# Altium integrated library Xilinx Virtex-II Pro.IntLib: 140 symbols (part 20 of 77)
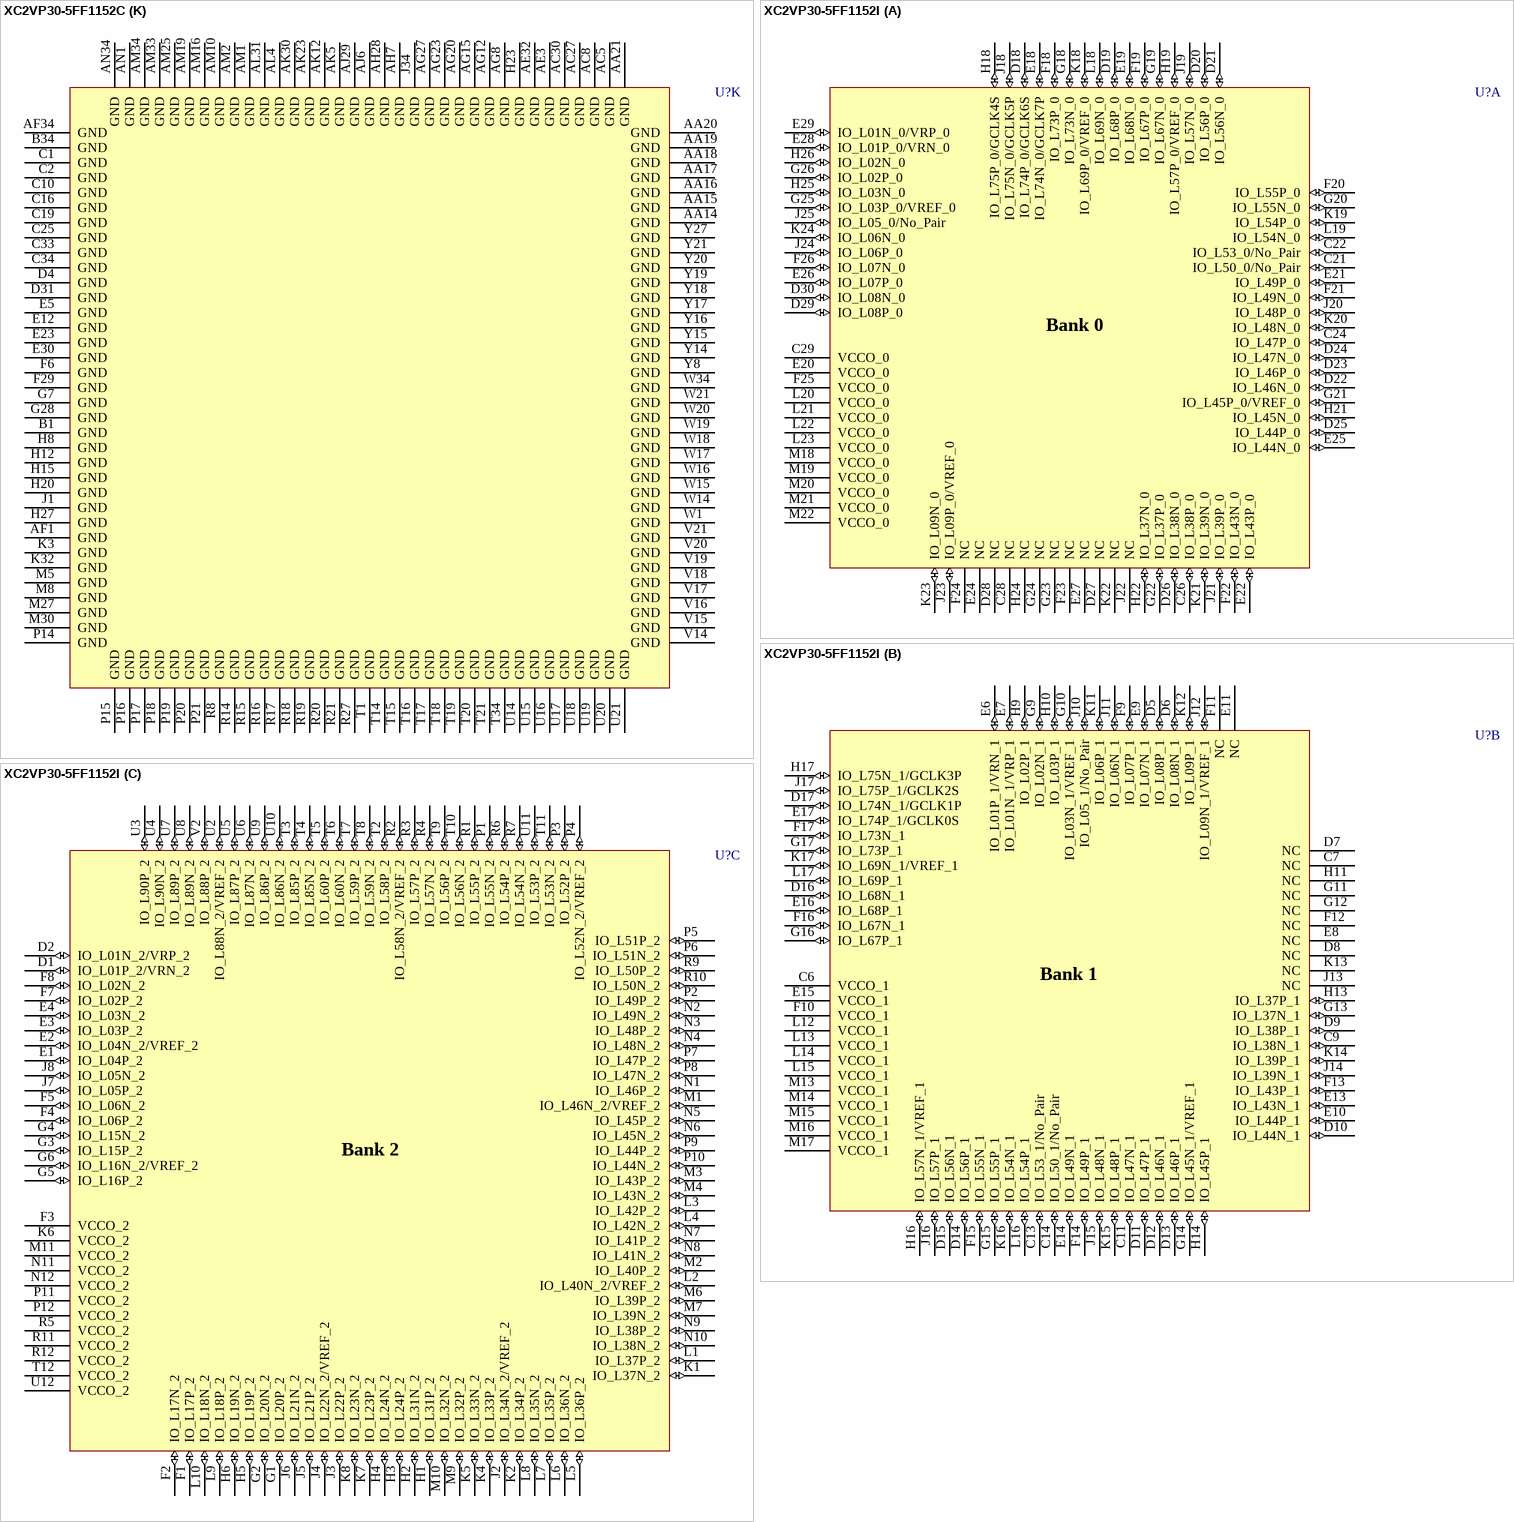
[diagram p418: symbols XC2VP30-5FF1152C to XC2VP30-5FF1152I]

## XC2VP30-5FF1152C
designator U?
Virtex-II Pro Platform FPGA, 1152-Ball FFBGA, Speed Grade 5, 644 User I/Os, Commercial Grade; PackageDocument: ver1.0, Apr-2001; User_I/Os: 644; Published: 16-Apr-2003; DatasheetDocument: 22-Apr-2004; PackageReference: FF1152; Publisher: Altium Limited; Code_JEDEC: MS-034-AAR-1
footprint FF1152 (1152-Ball Flip-Chip Fine Pitch Ball Grid Array (FF1152))
3D model XC2VP30-FF1152 (1152-Ball Flip-Chip Fine Pitch Ball Grid Array (FF1152))
signal-integrity model XC2VP30_FF1152 (Virtex-II Pro)
part A pins: C21 IO_L50_0/No_Pair (io), C22 IO_L53_0/No_Pair (io), C24 IO_L47P_0 (io), C26 IO_L38P_0 (io), C28 NC, C29 VCCO_0 (power), D18 IO_L74P_0/GCLK6S (io), D19 IO_L68P_0 (io), D20 IO_L56P_0 (io), D21 IO_L56N_0 (io), D22 IO_L46N_0 (io), D23 IO_L46P_0 (io), D24 IO_L47N_0 (io), D25 IO_L44P_0 (io), D26 IO_L38N_0 (io), D27 NC, D28 NC, D29 IO_L08P_0 (io), D30 IO_L08N_0 (io), E18 IO_L74N_0/GCLK7P (io), E19 IO_L68N_0 (io), E20 VCCO_0 (power), E21 IO_L49P_0 (io), E22 IO_L43P_0 (io), E24 NC, E25 IO_L44N_0 (io), E26 IO_L07P_0 (io), E27 NC, E28 IO_L01P_0/VRN_0 (io), E29 IO_L01N_0/VRP_0 (io), F18 IO_L73P_0 (io), F19 IO_L67P_0 (io), F20 IO_L55P_0 (io), F21 IO_L49N_0 (io), F22 IO_L43N_0 (io), F23 NC, F24 NC, F25 VCCO_0 (power), F26 IO_L07N_0 (io), G18 IO_L73N_0 (io), G19 IO_L67N_0 (io), G20 IO_L55N_0 (io), G21 IO_L45P_0/VREF_0 (io), G22 IO_L37P_0 (io), G23 NC, G24 NC, G25 IO_L03P_0/VREF_0 (io), G26 IO_L02P_0 (io), H18 IO_L75P_0/GCLK4S (io), H19 IO_L57P_0/VREF_0 (io), H21 IO_L45N_0 (io), H22 IO_L37N_0 (io), H24 NC, H25 IO_L03N_0 (io), H26 IO_L02N_0 (io), J18 IO_L75N_0/GCLK5P (io), J19 IO_L57N_0 (io), J20 IO_L48P_0 (io), J21 IO_L39P_0 (io), J22 NC, J23 IO_L09P_0/VREF_0 (io), J24 IO_L06P_0 (io), J25 IO_L05_0/No_Pair (io), K18 IO_L69P_0/VREF_0 (io), K19 IO_L54P_0 (io), K20 IO_L48N_0 (io), K21 IO_L39N_0 (io), K22 NC, K23 IO_L09N_0 (io), K24 IO_L06N_0 (io), L18 IO_L69N_0 (io), L19 IO_L54N_0 (io), L20 VCCO_0 (power), L21 VCCO_0 (power), L22 VCCO_0 (power), L23 VCCO_0 (power), M18 VCCO_0 (power), M19 VCCO_0 (power), M20 VCCO_0 (power), M21 VCCO_0 (power), M22 VCCO_0 (power)
part B pins: C6 VCCO_1 (power), C7 NC, C9 IO_L38N_1 (io), C11 IO_L47N_1 (io), C13 IO_L53_1/No_Pair (io), C14 IO_L50_1/No_Pair (io), D5 IO_L08P_1 (io), D6 IO_L08N_1 (io), D7 NC, D8 NC, D9 IO_L38P_1 (io), D10 IO_L44N_1 (io), D11 IO_L47P_1 (io), D12 IO_L46N_1 (io), D13 IO_L46P_1 (io), D14 IO_L56P_1 (io), D15 IO_L56N_1 (io), D16 IO_L68N_1 (io), D17 IO_L74N_1/GCLK1P (io), E6 IO_L01P_1/VRN_1 (io), E7 IO_L01N_1/VRP_1 (io), E8 NC, E9 IO_L07N_1 (io), E10 IO_L44P_1 (io), E11 NC, E13 IO_L43N_1 (io), E14 IO_L49N_1 (io), E15 VCCO_1 (power), E16 IO_L68P_1 (io), E17 IO_L74P_1/GCLK0S (io), F9 IO_L07P_1 (io), F10 VCCO_1 (power), F11 NC, F12 NC, F13 IO_L43P_1 (io), F14 IO_L49P_1 (io), F15 IO_L55N_1 (io), F16 IO_L67N_1 (io), F17 IO_L73N_1 (io), G9 IO_L02N_1 (io), G10 IO_L03N_1/VREF_1 (io), G11 NC, G12 NC, G13 IO_L37N_1 (io), G14 IO_L45N_1/VREF_1 (io), G15 IO_L55P_1 (io), G16 IO_L67P_1 (io), G17 IO_L73P_1 (io), H9 IO_L02P_1 (io), H10 IO_L03P_1 (io), H11 NC, H13 IO_L37P_1 (io), H14 IO_L45P_1 (io), H16 IO_L57N_1/VREF_1 (io), H17 IO_L75N_1/GCLK3P (io), J10 IO_L05_1/No_Pair (io), J11 IO_L06N_1 (io), J12 IO_L09N_1/VREF_1 (io), J13 NC, J14 IO_L39N_1 (io), J15 IO_L48N_1 (io), J16 IO_L57P_1 (io), J17 IO_L75P_1/GCLK2S (io), K11 IO_L06P_1 (io), K12 IO_L09P_1 (io), K13 NC, K14 IO_L39P_1 (io), K15 IO_L48P_1 (io), K16 IO_L54N_1 (io), K17 IO_L69N_1/VREF_1 (io), L12 VCCO_1 (power), L13 VCCO_1 (power), L14 VCCO_1 (power), L15 VCCO_1 (power), L16 IO_L54P_1 (io), L17 IO_L69P_1 (io), M13 VCCO_1 (power), M14 VCCO_1 (power), M15 VCCO_1 (power), M16 VCCO_1 (power), M17 VCCO_1 (power)
part C pins: D1 IO_L01P_2/VRN_2 (io), D2 IO_L01N_2/VRP_2 (io), E1 IO_L04P_2 (io), E2 IO_L04N_2/VREF_2 (io), E3 IO_L03P_2 (io), E4 IO_L03N_2 (io), F1 IO_L17P_2 (io), F2 IO_L17N_2 (io), F3 VCCO_2 (power), F4 IO_L06P_2 (io), F5 IO_L06N_2 (io), F7 IO_L02P_2 (io), F8 IO_L02N_2 (io), G1 IO_L20P_2 (io), G2 IO_L20N_2 (io), G3 IO_L15P_2 (io), G4 IO_L15N_2 (io), G5 IO_L16P_2 (io), G6 IO_L16N_2/VREF_2 (io), H1 IO_L31P_2 (io), H2 IO_L31N_2 (io), H3 IO_L24P_2 (io), H4 IO_L24N_2 (io), H5 IO_L19P_2 (io), H6 IO_L19N_2 (io), J2 IO_L34N_2/VREF_2 (io), J3 IO_L22P_2 (io), J4 IO_L22N_2/VREF_2 (io), J5 IO_L21P_2 (io), J6 IO_L21N_2 (io), J7 IO_L05P_2 (io), J8 IO_L05N_2 (io), K1 IO_L37N_2 (io), K2 IO_L34P_2 (io), K4 IO_L33P_2 (io), K5 IO_L33N_2 (io), K6 VCCO_2 (power), K7 IO_L23P_2 (io), K8 IO_L23N_2 (io), L1 IO_L37P_2 (io), L2 IO_L40N_2/VREF_2 (io), L3 IO_L42P_2 (io), L4 IO_L42N_2 (io), L5 IO_L36P_2 (io), L6 IO_L36N_2 (io), L7 IO_L35P_2 (io), L8 IO_L35N_2 (io), L9 IO_L18P_2 (io), L10 IO_L18N_2 (io), M1 IO_L46N_2/VREF_2 (io), M2 IO_L40P_2 (io), M3 IO_L43P_2 (io), M4 IO_L43N_2 (io), M6 IO_L39P_2 (io), M7 IO_L39N_2 (io), M9 IO_L32P_2 (io), M10 IO_L32N_2 (io), M11 VCCO_2 (power), N1 IO_L46P_2 (io), N2 IO_L49N_2 (io), N3 IO_L48P_2 (io), N4 IO_L48N_2 (io), N5 IO_L45P_2 (io), N6 IO_L45N_2 (io), N7 IO_L41P_2 (io), N8 IO_L41N_2 (io), N9 IO_L38P_2 (io), N10 IO_L38N_2 (io), N11 VCCO_2 (power), N12 VCCO_2 (power), P1 IO_L55N_2 (io), P2 IO_L49P_2 (io), P3 IO_L52P_2 (io), P4 IO_L52N_2/VREF_2 (io), P5 IO_L51P_2 (io), P6 IO_L51N_2 (io), P7 IO_L47P_2 (io), P8 IO_L47N_2 (io), P9 IO_L44P_2 (io), P10 IO_L44N_2 (io), P11 VCCO_2 (power), P12 VCCO_2 (power), R1 IO_L55P_2 (io), R2 IO_L58N_2/VREF_2 (io), R3 IO_L57P_2 (io), R4 IO_L57N_2 (io), R5 VCCO_2 (power), R6 IO_L54P_2 (io), R7 IO_L54N_2 (io), R9 IO_L50P_2 (io), R10 IO_L50N_2 (io), R11 VCCO_2 (power), R12 VCCO_2 (power), T2 IO_L58P_2 (io), T3 IO_L85P_2 (io), T4 IO_L85N_2 (io), T5 IO_L60P_2 (io), T6 IO_L60N_2 (io), T7 IO_L59P_2 (io), T8 IO_L59N_2 (io), T9 IO_L56P_2 (io), T10 IO_L56N_2 (io), T11 IO_L53N_2 (io), T12 VCCO_2 (power), U2 IO_L88N_2/VREF_2 (io), U3 IO_L90P_2 (io), U4 IO_L90N_2 (io), U5 IO_L87P_2 (io), U6 IO_L87N_2 (io), U7 IO_L89P_2 (io), U8 IO_L89N_2 (io), U9 IO_L86P_2 (io), U10 IO_L86N_2 (io), U11 IO_L53P_2 (io), U12 VCCO_2 (power), V2 IO_L88P_2 (io)
part D pins: AA1 IO_L60P_3 (io), AA2 IO_L54N_3 (io), AA3 IO_L52N_3 (io), AA4 IO_L52P_3 (io), AA5 IO_L49N_3 (io), AA6 IO_L49P_3 (io), AA7 IO_L47N_3 (io), AA8 IO_L47P_3 (io), AA9 IO_L44N_3 (io), AA10 IO_L44P_3 (io), AA11 VCCO_3 (power), AA12 VCCO_3 (power), AB1 IO_L51N_3/VREF_3 (io), AB2 IO_L54P_3 (io), AB3 IO_L48N_3 (io), AB4 IO_L48P_3 (io), AB5 IO_L46N_3 (io), AB6 IO_L46P_3 (io), AB7 IO_L41N_3 (io), AB8 IO_L41P_3 (io), AB9 IO_L38N_3 (io), AB10 IO_L38P_3 (io), AB11 VCCO_3 (power), AB12 VCCO_3 (power), AC1 IO_L51P_3 (io), AC2 IO_L45N_3/VREF_3 (io), AC3 IO_L43N_3 (io), AC4 IO_L43P_3 (io), AC6 IO_L40N_3 (io), AC7 IO_L40P_3 (io), AC9 IO_L32N_3 (io), AC10 IO_L32P_3 (io), AC11 VCCO_3 (power), AD1 IO_L42N_3 (io), AD2 IO_L45P_3 (io), AD3 IO_L39N_3/VREF_3 (io), AD4 IO_L39P_3 (io), AD5 IO_L37N_3 (io), AD6 IO_L37P_3 (io), AD7 IO_L35N_3 (io), AD8 IO_L35P_3 (io), AD9 IO_L20N_3 (io), AD10 IO_L20P_3 (io), AE1 IO_L42P_3 (io), AE2 IO_L36N_3 (io), AE4 IO_L34N_3 (io), AE5 IO_L34P_3 (io), AE6 VCCO_3 (power), AE7 IO_L23N_3 (io), AE8 IO_L23P_3 (io), AF2 IO_L36P_3 (io), AF3 IO_L31N_3 (io), AF4 IO_L31P_3 (io), AF5 IO_L22N_3 (io), AF6 IO_L22P_3 (io), AF7 IO_L17N_3 (io), AF8 IO_L17P_3 (io), AG1 IO_L33N_3/VREF_3 (io), AG2 IO_L33P_3 (io), AG3 IO_L21N_3/VREF_3 (io), AG4 IO_L21P_3 (io), AG5 IO_L15N_3/VREF_3 (io), AG6 IO_L15P_3 (io), AG7 IO_L05N_3 (io), AH1 IO_L24N_3 (io), AH2 IO_L24P_3 (io), AH3 IO_L19N_3 (io), AH4 IO_L19P_3 (io), AH5 IO_L04N_3 (io), AH6 IO_L04P_3 (io), AH8 IO_L05P_3 (io), AJ1 IO_L18N_3 (io), AJ2 IO_L18P_3 (io), AJ3 VCCO_3 (power), AJ4 IO_L01N_3/VRP_3 (io), AJ5 IO_L01P_3/VRN_3 (io), AJ7 IO_L02N_3 (io), AJ8 IO_L02P_3 (io), AK1 IO_L16N_3 (io), AK2 IO_L16P_3 (io), AK3 IO_L03N_3/VREF_3 (io), AK4 IO_L03P_3 (io), AL1 IO_L06N_3 (io), AL2 IO_L06P_3 (io), V3 IO_L90N_3 (io), V4 IO_L90P_3 (io), V5 IO_L88N_3 (io), V6 IO_L88P_3 (io), V7 IO_L89N_3 (io), V8 IO_L89P_3 (io), V9 IO_L86N_3 (io), V10 IO_L86P_3 (io), V11 IO_L59N_3 (io), V12 VCCO_3 (power), W2 IO_L87N_3/VREF_3 (io), W3 IO_L85N_3 (io), W4 IO_L85P_3 (io), W5 IO_L58N_3 (io), W6 IO_L58P_3 (io), W7 IO_L56N_3 (io), W8 IO_L56P_3 (io), W9 IO_L53N_3 (io), W10 IO_L53P_3 (io), W11 IO_L59P_3 (io), W12 VCCO_3 (power), Y1 IO_L60N_3 (io), Y2 IO_L87P_3 (io), Y3 IO_L57N_3/VREF_3 (io), Y4 IO_L57P_3 (io), Y5 VCCO_3 (power), Y6 IO_L55N_3 (io), Y7 IO_L55P_3 (io), Y9 IO_L50N_3 (io), Y10 IO_L50P_3 (io), Y11 VCCO_3 (power), Y12 VCCO_3 (power)
part E pins: AC13 VCCO_4 (power), AC14 VCCO_4 (power), AC15 VCCO_4 (power), AC16 VCCO_4 (power), AC17 VCCO_4 (power), AD12 VCCO_4 (power), AD13 VCCO_4 (power), AD14 VCCO_4 (power), AD15 VCCO_4 (power), AD16 IO_L49N_4 (io), AD17 IO_L67N_4 (io), AE11 IO_L07N_4 (io), AE12 NC, AE13 IO_L37N_4 (io), AE14 IO_L43N_4 (io), AE15 IO_L46N_4 (io), AE16 IO_L49P_4 (io), AE17 IO_L67P_4 (io), AF10 IO_L05_4/No_Pair (io), AF11 IO_L07P_4/VREF_4 (io), AF12 NC, AF13 IO_L37P_4 (io), AF14 IO_L43P_4 (io), AF15 IO_L46P_4 (io), AF16 IO_L55N_4 (io), AF17 IO_L73N_4 (io), AG9 IO_L02N_4/D0 (io), AG10 IO_L08N_4 (io), AG11 NC, AG13 IO_L38N_4 (io), AG14 IO_L47N_4 (io), AG16 IO_L55P_4 (io), AG17 IO_L73P_4 (io), AH9 IO_L02P_4/D1 (io), AH10 IO_L08P_4 (io), AH11 NC, AH12 NC, AH13 IO_L38P_4 (io), AH14 IO_L47P_4 (io), AH15 IO_L56N_4 (io), AH16 IO_L68N_4 (io), AH17 IO_L74N_4/GCLK3S (io), AJ9 NC, AJ10 VCCO_4 (power), AJ11 IO_L39N_4 (io), AJ12 NC, AJ13 IO_L44N_4 (io), AJ14 IO_L50_4/No_Pair (io), AJ15 IO_L56P_4 (io), AJ16 IO_L68P_4 (io), AJ17 IO_L74P_4/GCLK2P (io), AK6 IO_L03N_4/D2 (io), AK7 IO_L03P_4/D3 (io), AK8 IO_L09N_4 (io), AK9 NC, AK10 NC, AK11 IO_L39P_4 (io), AK13 IO_L44P_4 (io), AK14 IO_L53_4/No_Pair (io), AK15 VCCO_4 (power), AK16 IO_L69N_4 (io), AK17 IO_L75N_4/GCLK1S (io), AL5 IO_L01N_4/DOUT (io), AL6 IO_L01P_4/INIT_B (io), AL7 IO_L06N_4/VRP_4 (io), AL8 IO_L09P_4/VREF_4 (io), AL9 NC, AL10 NC, AL11 IO_L45N_4 (io), AL12 IO_L48P_4 (io), AL13 IO_L48N_4 (io), AL14 IO_L57N_4 (io), AL15 IO_L57P_4/VREF_4 (io), AL16 IO_L69P_4/VREF_4 (io), AL17 IO_L75P_4/GCLK0P (io), AM6 VCCO_4 (power), AM7 IO_L06P_4/VRN_4 (io), AM9 NC, AM11 IO_L45P_4/VREF_4 (io), AM13 IO_L54P_4 (io), AM14 IO_L54N_4 (io)
part F pins: AC18 VCCO_5 (power), AC19 VCCO_5 (power), AC20 VCCO_5 (power), AC21 VCCO_5 (power), AC22 VCCO_5 (power), AD18 IO_L67P_5 (io), AD19 IO_L49P_5 (io), AD20 VCCO_5 (power), AD21 VCCO_5 (power), AD22 VCCO_5 (power), AD23 VCCO_5 (power), AE18 IO_L67N_5 (io), AE19 IO_L49N_5 (io), AE20 IO_L46P_5 (io), AE21 IO_L43P_5 (io), AE22 IO_L37P_5 (io), AE23 NC, AE24 IO_L07P_5 (io), AF18 IO_L73P_5 (io), AF19 IO_L55P_5 (io), AF20 IO_L46N_5 (io), AF21 IO_L43N_5 (io), AF22 IO_L37N_5 (io), AF23 NC, AF24 IO_L07N_5/VREF_5 (io), AF25 IO_L05_5/No_Pair (io), AG18 IO_L73N_5 (io), AG19 IO_L55N_5 (io), AG21 IO_L47P_5 (io), AG22 IO_L38P_5 (io), AG24 NC, AG25 IO_L08P_5 (io), AG26 IO_L02P_5/D7 (io), AH18 IO_L74P_5/GCLK4P (io), AH19 IO_L68P_5 (io), AH20 IO_L56P_5 (io), AH21 IO_L47N_5 (io), AH22 IO_L38N_5 (io), AH23 NC, AH24 NC, AH25 IO_L08N_5 (io), AH26 IO_L02N_5/D6 (io), AJ18 IO_L74N_5/GCLK5S (io), AJ19 IO_L68N_5 (io), AJ20 IO_L56N_5 (io), AJ21 IO_L50_5/No_Pair (io), AJ22 IO_L44P_5 (io), AJ23 NC, AJ24 IO_L39P_5 (io), AJ25 VCCO_5 (power), AJ26 NC, AK18 IO_L75P_5/GCLK6P (io), AK19 IO_L69P_5 (io), AK20 VCCO_5 (power), AK21 IO_L53_5/No_Pair (io), AK22 IO_L44N_5 (io), AK24 IO_L39N_5 (io), AK25 NC, AK26 NC, AK27 IO_L09P_5 (io), AK28 IO_L03N_5/D4 (io), AK29 IO_L03P_5/D5 (io), AL18 IO_L75N_5/GCLK7S (io), AL19 IO_L69N_5/VREF_5 (io), AL20 IO_L57N_5/VREF_5 (io), AL21 IO_L57P_5 (io), AL22 IO_L48P_5 (io), AL23 IO_L48N_5 (io), AL24 IO_L45P_5 (io), AL25 NC, AL26 NC, AL27 IO_L09N_5/VREF_5 (io), AL28 IO_L06P_5/VRN_5 (io), AL29 IO_L01N_5/RDWR_B (io), AL30 IO_L01P_5/CS_B (io), AM21 IO_L54P_5 (io), AM22 IO_L54N_5 (io), AM24 IO_L45N_5/VREF_5 (io), AM26 NC, AM28 IO_L06N_5/VRP_5 (io), AM29 VCCO_5 (power)
part G pins: AA23 VCCO_6 (power), AA24 VCCO_6 (power), AA25 IO_L44P_6 (io), AA26 IO_L44N_6 (io), AA27 IO_L47P_6 (io), AA28 IO_L47N_6 (io), AA29 IO_L49P_6 (io), AA30 IO_L49N_6 (io), AA31 IO_L52P_6 (io), AA32 IO_L52N_6 (io), AA33 IO_L54N_6 (io), AA34 IO_L60P_6 (io), AB23 VCCO_6 (power), AB24 VCCO_6 (power), AB25 IO_L38P_6 (io), AB26 IO_L38N_6 (io), AB27 IO_L41P_6 (io), AB28 IO_L41N_6 (io), AB29 IO_L46P_6 (io), AB30 IO_L46N_6 (io), AB31 IO_L48P_6 (io), AB32 IO_L48N_6 (io), AB33 IO_L54P_6 (io), AB34 IO_L51N_6/VREF_6 (io), AC24 VCCO_6 (power), AC25 IO_L32P_6 (io), AC26 IO_L32N_6 (io), AC28 IO_L40P_6 (io), AC29 IO_L40N_6 (io), AC31 IO_L43P_6 (io), AC32 IO_L43N_6 (io), AC33 IO_L45N_6/VREF_6 (io), AC34 IO_L51P_6 (io), AD25 IO_L20P_6 (io), AD26 IO_L20N_6 (io), AD27 IO_L35P_6 (io), AD28 IO_L35N_6 (io), AD29 IO_L37P_6 (io), AD30 IO_L37N_6 (io), AD31 IO_L39P_6 (io), AD32 IO_L39N_6/VREF_6 (io), AD33 IO_L45P_6 (io), AD34 IO_L42N_6 (io), AE27 IO_L23P_6 (io), AE28 IO_L23N_6 (io), AE29 VCCO_6 (power), AE30 IO_L34P_6 (io), AE31 IO_L34N_6 (io), AE33 IO_L36N_6 (io), AE34 IO_L42P_6 (io), AF27 IO_L17P_6 (io), AF28 IO_L17N_6 (io), AF29 IO_L22P_6 (io), AF30 IO_L22N_6 (io), AF31 IO_L31P_6 (io), AF32 IO_L31N_6 (io), AF33 IO_L36P_6 (io), AG28 IO_L05N_6 (io), AG29 IO_L15P_6 (io), AG30 IO_L15N_6/VREF_6 (io), AG31 IO_L21P_6 (io), AG32 IO_L21N_6/VREF_6 (io), AG33 IO_L33P_6 (io), AG34 IO_L33N_6/VREF_6 (io), AH27 IO_L05P_6 (io), AH29 IO_L04P_6 (io), AH30 IO_L04N_6 (io), AH31 IO_L19P_6 (io), AH32 IO_L19N_6 (io), AH33 IO_L24P_6 (io), AH34 IO_L24N_6 (io), AJ27 IO_L02P_6 (io), AJ28 IO_L02N_6 (io), AJ30 IO_L01P_6/VRN_6 (io), AJ31 IO_L01N_6/VRP_6 (io), AJ32 VCCO_6 (power), AJ33 IO_L18P_6 (io), AJ34 IO_L18N_6 (io), AK31 IO_L03P_6 (io), AK32 IO_L03N_6/VREF_6 (io), AK33 IO_L16P_6 (io), AK34 IO_L16N_6 (io), AL33 IO_L06P_6 (io), AL34 IO_L06N_6 (io), V23 VCCO_6 (power), V24 IO_L59N_6 (io), V25 IO_L86P_6 (io), V26 IO_L86N_6 (io), V27 IO_L89P_6 (io), V28 IO_L89N_6 (io), V29 IO_L88P_6 (io), V30 IO_L88N_6 (io), V31 IO_L90P_6 (io), V32 IO_L90N_6 (io), W23 VCCO_6 (power), W24 IO_L59P_6 (io), W25 IO_L53P_6 (io), W26 IO_L53N_6 (io), W27 IO_L56P_6 (io), W28 IO_L56N_6 (io), W29 IO_L58P_6 (io), W30 IO_L58N_6 (io), W31 IO_L85P_6 (io), W32 IO_L85N_6 (io), W33 IO_L87N_6/VREF_6 (io), Y23 VCCO_6 (power), Y24 VCCO_6 (power), Y25 IO_L50P_6 (io), Y26 IO_L50N_6 (io), Y28 IO_L55P_6 (io), Y29 IO_L55N_6 (io), Y30 VCCO_6 (power), Y31 IO_L57P_6 (io), Y32 IO_L57N_6/VREF_6 (io), Y33 IO_L87P_6 (io), Y34 IO_L60N_6 (io)
part H pins: D33 IO_L01N_7/VRP_7 (io), D34 IO_L01P_7/VRN_7 (io), E31 IO_L03N_7 (io), E32 IO_L03P_7 (io), E33 IO_L04N_7/VREF_7 (io), E34 IO_L04P_7 (io), F27 IO_L02N_7 (io), F28 IO_L02P_7 (io), F30 IO_L06N_7 (io), F31 IO_L06P_7 (io), F32 VCCO_7 (power), F33 IO_L17N_7 (io), F34 IO_L17P_7 (io), G29 IO_L16N_7/VREF_7 (io), G30 IO_L16P_7 (io), G31 IO_L15N_7 (io), G32 IO_L15P_7 (io), G33 IO_L20N_7 (io), G34 IO_L20P_7 (io), H29 IO_L19N_7 (io), H30 IO_L19P_7 (io), H31 IO_L24N_7 (io), H32 IO_L24P_7 (io), H33 IO_L31N_7 (io), H34 IO_L31P_7 (io), J27 IO_L05N_7 (io), J28 IO_L05P_7 (io), J29 IO_L21N_7 (io), J30 IO_L21P_7 (io), J31 IO_L22N_7/VREF_7 (io), J32 IO_L22P_7 (io), J33 IO_L34N_7/VREF_7 (io), K27 IO_L23N_7 (io), K28 IO_L23P_7 (io), K29 VCCO_7 (power), K30 IO_L33N_7 (io), K31 IO_L33P_7 (io), K33 IO_L34P_7 (io), K34 IO_L37N_7 (io), L25 IO_L18N_7 (io), L26 IO_L18P_7 (io), L27 IO_L35N_7 (io), L28 IO_L35P_7 (io), L29 IO_L36N_7 (io), L30 IO_L36P_7 (io), L31 IO_L42N_7 (io), L32 IO_L42P_7 (io), L33 IO_L40N_7/VREF_7 (io), L34 IO_L37P_7 (io), M24 VCCO_7 (power), M25 IO_L32N_7 (io), M26 IO_L32P_7 (io), M28 IO_L39N_7 (io), M29 IO_L39P_7 (io), M31 IO_L43N_7 (io), M32 IO_L43P_7 (io), M33 IO_L40P_7 (io), M34 IO_L46N_7/VREF_7 (io), N23 VCCO_7 (power), N24 VCCO_7 (power), N25 IO_L38N_7 (io), N26 IO_L38P_7 (io), N27 IO_L41N_7 (io), N28 IO_L41P_7 (io), N29 IO_L45N_7 (io), N30 IO_L45P_7 (io), N31 IO_L48N_7 (io), N32 IO_L48P_7 (io), N33 IO_L49N_7 (io), N34 IO_L46P_7 (io), P23 VCCO_7 (power), P24 VCCO_7 (power), P25 IO_L44N_7 (io), P26 IO_L44P_7 (io), P27 IO_L47N_7 (io), P28 IO_L47P_7 (io), P29 IO_L51N_7 (io), P30 IO_L51P_7 (io), P31 IO_L52N_7/VREF_7 (io), P32 IO_L52P_7 (io), P33 IO_L49P_7 (io), P34 IO_L55N_7 (io), R23 VCCO_7 (power), R24 VCCO_7 (power), R25 IO_L50N_7 (io), R26 IO_L50P_7 (io), R28 IO_L54N_7 (io), R29 IO_L54P_7 (io), R30 VCCO_7 (power), R31 IO_L57N_7 (io), R32 IO_L57P_7 (io), R33 IO_L58N_7/VREF_7 (io), R34 IO_L55P_7 (io), T23 VCCO_7 (power), T24 IO_L53N_7 (io), T25 IO_L56N_7 (io), T26 IO_L56P_7 (io), T27 IO_L59N_7 (io), T28 IO_L59P_7 (io), T29 IO_L60N_7 (io), T30 IO_L60P_7 (io), T31 IO_L85N_7 (io), T32 IO_L85P_7 (io), T33 IO_L58P_7 (io), U23 VCCO_7 (power), U24 IO_L53P_7 (io), U25 IO_L86N_7 (io), U26 IO_L86P_7 (io), U27 IO_L89N_7 (io), U28 IO_L89P_7 (io), U29 IO_L87N_7 (io), U30 IO_L87P_7 (io), U31 IO_L90N_7 (io), U32 IO_L90P_7 (io), U33 IO_L88N_7/VREF_7 (io), V33 IO_L88P_7 (io)
part I pins: A2 NC, A3 NC, A4 NC, A5 NC, A6 RXNPAD9 (in), A7 RXPPAD9 (in), A8 TXPPAD9 (hiz), A9 TXNPAD9 (hiz), A10 NC, A11 NC, A12 NC, A13 NC, A14 RXNPAD7 (in), A15 RXPPAD7 (in), A16 TXPPAD7 (hiz), A17 TXNPAD7 (hiz), A18 RXNPAD6 (in), A19 RXPPAD6 (in), A20 TXPPAD6 (hiz), A21 TXNPAD6 (hiz), A22 NC, A23 NC, A24 NC, A25 NC, A26 RXNPAD4 (in), A27 RXPPAD4 (in), A28 TXPPAD4 (hiz), A29 TXNPAD4 (hiz), A30 NC, A31 NC, A32 NC, A33 NC, AM5 NC, AM8 GNDA16 (power), AM12 NC, AM15 GNDA18 (power), AM20 GNDA19 (power), AM23 NC, AM27 GNDA21 (power), AM30 NC, AN2 NC, AN3 NC, AN4 NC, AN5 NC, AN6 AVCCAUXRX16 (power), AN7 VTRXPAD16 (power), AN8 AVCCAUXTX16 (power), AN9 VTTXPAD16 (power), AN10 NC, AN11 NC, AN12 NC, AN13 NC, AN14 AVCCAUXRX18 (power), AN15 VTRXPAD18 (power), AN16 AVCCAUXTX18 (power), AN17 VTTXPAD18 (power), AN18 AVCCAUXRX19 (power), AN19 VTRXPAD19 (power), AN20 AVCCAUXTX19 (power), AN21 VTTXPAD19 (power), AN22 NC, AN23 NC, AN24 NC, AN25 NC, AN26 AVCCAUXRX21 (power), AN27 VTRXPAD21 (power), AN28 AVCCAUXTX21 (power), AN29 VTTXPAD21 (power), AN30 NC, AN31 NC, AN32 NC, AN33 NC, AP2 NC, AP3 NC, AP4 NC, AP5 NC, AP6 RXNPAD16 (in), AP7 RXPPAD16 (in), AP8 TXPPAD16 (hiz), AP9 TXNPAD16 (hiz), AP10 NC, AP11 NC, AP12 NC, AP13 NC, AP14 RXNPAD18 (in), AP15 RXPPAD18 (in), AP16 TXPPAD18 (hiz), AP17 TXNPAD18 (hiz), AP18 RXNPAD19 (in), AP19 RXPPAD19 (in), AP20 TXPPAD19 (hiz), AP21 TXNPAD19 (hiz), AP22 NC, AP23 NC, AP24 NC, AP25 NC, AP26 RXNPAD21 (in), AP27 RXPPAD21 (in), AP28 TXPPAD21 (hiz), AP29 TXNPAD21 (hiz), AP30 NC, AP31 NC, AP32 NC, AP33 NC, B2 NC, B3 NC, B4 NC, B5 NC, B6 AVCCAUXRX9 (power), B7 VTRXPAD9 (power), B8 AVCCAUXTX9 (power), B9 VTTXPAD9 (power), B10 NC, B11 NC, B12 NC, B13 NC, B14 AVCCAUXRX7 (power), B15 VTRXPAD7 (power), B16 AVCCAUXTX7 (power), B17 VTTXPAD7 (power), B18 AVCCAUXRX6 (power), B19 VTRXPAD6 (power), B20 AVCCAUXTX6 (power), B21 VTTXPAD6 (power), B22 NC, B23 NC, B24 NC, B25 NC, B26 AVCCAUXRX4 (power), B27 VTRXPAD4 (power), B28 AVCCAUXTX4 (power), B29 VTTXPAD4 (power), B30 NC, B31 NC, B32 NC, B33 NC, C5 NC, C8 GNDA9 (power), C12 NC, C15 GNDA7 (power), C20 GNDA6 (power), C23 NC, C27 GNDA4 (power), C30 NC
part J pins: AA13 VCCINT (power), AA22 VCCINT (power), AB13 VCCINT (power), AB14 VCCINT (power), AB15 VCCINT (power), AB16 VCCINT (power), AB17 VCCINT (power), AB18 VCCINT (power), AB19 VCCINT (power), AB20 VCCINT (power), AB21 VCCINT (power), AB22 VCCINT (power), AC12 VCCINT (power), AC23 VCCINT (power), AD11 VCCINT (power), AD24 VCCINT (power), AE9 CCLK (io), AE10 DONE (io), AE25 M2 (in), AE26 M1 (in), AF9 PWRDWN_B (in), AF26 M0 (in), AL3 VCCAUX (power), AL32 VCCAUX (power), AM3 VCCAUX (power), AM4 VCCAUX (power), AM17 VCCAUX (power), AM18 VCCAUX (power), AM31 VCCAUX (power), AM32 VCCAUX (power), C3 VCCAUX (power), C4 VCCAUX (power), C17 VCCAUX (power), C18 VCCAUX (power), C31 VCCAUX (power), C32 VCCAUX (power), D3 VCCAUX (power), D32 VCCAUX (power), G8 RSVD, G27 DXN, H7 TDO (out), H28 TDI (in), J9 TCK (in), J26 PROG_B (in), K9 VBATT (power), K10 TMS (in), K25 HSWAP_EN (in), K26 DXP, L11 VCCINT (power), L24 VCCINT (power), M12 VCCINT (power), M23 VCCINT (power), N13 VCCINT (power), N14 VCCINT (power), N15 VCCINT (power), N16 VCCINT (power), N17 VCCINT (power), N18 VCCINT (power), N19 VCCINT (power), N20 VCCINT (power), N21 VCCINT (power), N22 VCCINT (power), P13 VCCINT (power), P22 VCCINT (power), R13 VCCINT (power), R22 VCCINT (power), T13 VCCINT (power), T22 VCCINT (power), U1 VCCAUX (power), U13 VCCINT (power), U22 VCCINT (power), U34 VCCAUX (power), V1 VCCAUX (power), V13 VCCINT (power), V22 VCCINT (power), V34 VCCAUX (power), W13 VCCINT (power), W22 VCCINT (power), Y13 VCCINT (power), Y22 VCCINT (power)
part K pins: AA14 GND (power), AA15 GND (power), AA16 GND (power), AA17 GND (power), AA18 GND (power), AA19 GND (power), AA20 GND (power), AA21 GND (power), AC5 GND (power), AC8 GND (power), AC27 GND (power), AC30 GND (power), AE3 GND (power), AE32 GND (power), AF1 GND (power), AF34 GND (power), AG8 GND (power), AG12 GND (power), AG15 GND (power), AG20 GND (power), AG23 GND (power), AG27 GND (power), AH7 GND (power), AH28 GND (power), AJ6 GND (power), AJ29 GND (power), AK5 GND (power), AK12 GND (power), AK23 GND (power), AK30 GND (power), AL4 GND (power), AL31 GND (power), AM1 GND (power), AM2 GND (power), AM10 GND (power), AM16 GND (power), AM19 GND (power), AM25 GND (power), AM33 GND (power), AM34 GND (power), AN1 GND (power), AN34 GND (power), B1 GND (power), B34 GND (power), C1 GND (power), C2 GND (power), C10 GND (power), C16 GND (power), C19 GND (power), C25 GND (power), C33 GND (power), C34 GND (power), D4 GND (power), D31 GND (power), E5 GND (power), E12 GND (power), E23 GND (power), E30 GND (power), F6 GND (power), F29 GND (power), G7 GND (power), G28 GND (power), H8 GND (power), H12 GND (power), H15 GND (power), H20 GND (power), H23 GND (power), H27 GND (power), J1 GND (power), J34 GND (power), K3 GND (power), K32 GND (power), M5 GND (power), M8 GND (power), M27 GND (power), M30 GND (power), P14 GND (power), P15 GND (power), P16 GND (power), P17 GND (power), P18 GND (power), P19 GND (power), P20 GND (power), P21 GND (power), R8 GND (power), R14 GND (power), R15 GND (power), R16 GND (power), R17 GND (power), R18 GND (power), R19 GND (power), R20 GND (power), R21 GND (power), R27 GND (power), T1 GND (power), T14 GND (power), T15 GND (power), T16 GND (power), T17 GND (power), T18 GND (power), T19 GND (power), T20 GND (power), T21 GND (power), T34 GND (power), U14 GND (power), U15 GND (power), U16 GND (power), U17 GND (power), U18 GND (power), U19 GND (power), U20 GND (power), U21 GND (power), V14 GND (power), V15 GND (power), V16 GND (power), V17 GND (power), V18 GND (power), V19 GND (power), V20 GND (power), V21 GND (power), W1 GND (power), W14 GND (power), W15 GND (power), W16 GND (power), W17 GND (power), W18 GND (power), W19 GND (power), W20 GND (power), W21 GND (power), W34 GND (power), Y8 GND (power), Y14 GND (power), Y15 GND (power), Y16 GND (power), Y17 GND (power), Y18 GND (power), Y19 GND (power), Y20 GND (power), Y21 GND (power), Y27 GND (power)
part A text: Bank 0
part B text: Bank 1
part C text: Bank 2
part D text: Bank 3
part E text: Bank 4
part F text: Bank 5
part G text: Bank 6
part H text: Bank 7
part I text: TRANSCEIVER CORE

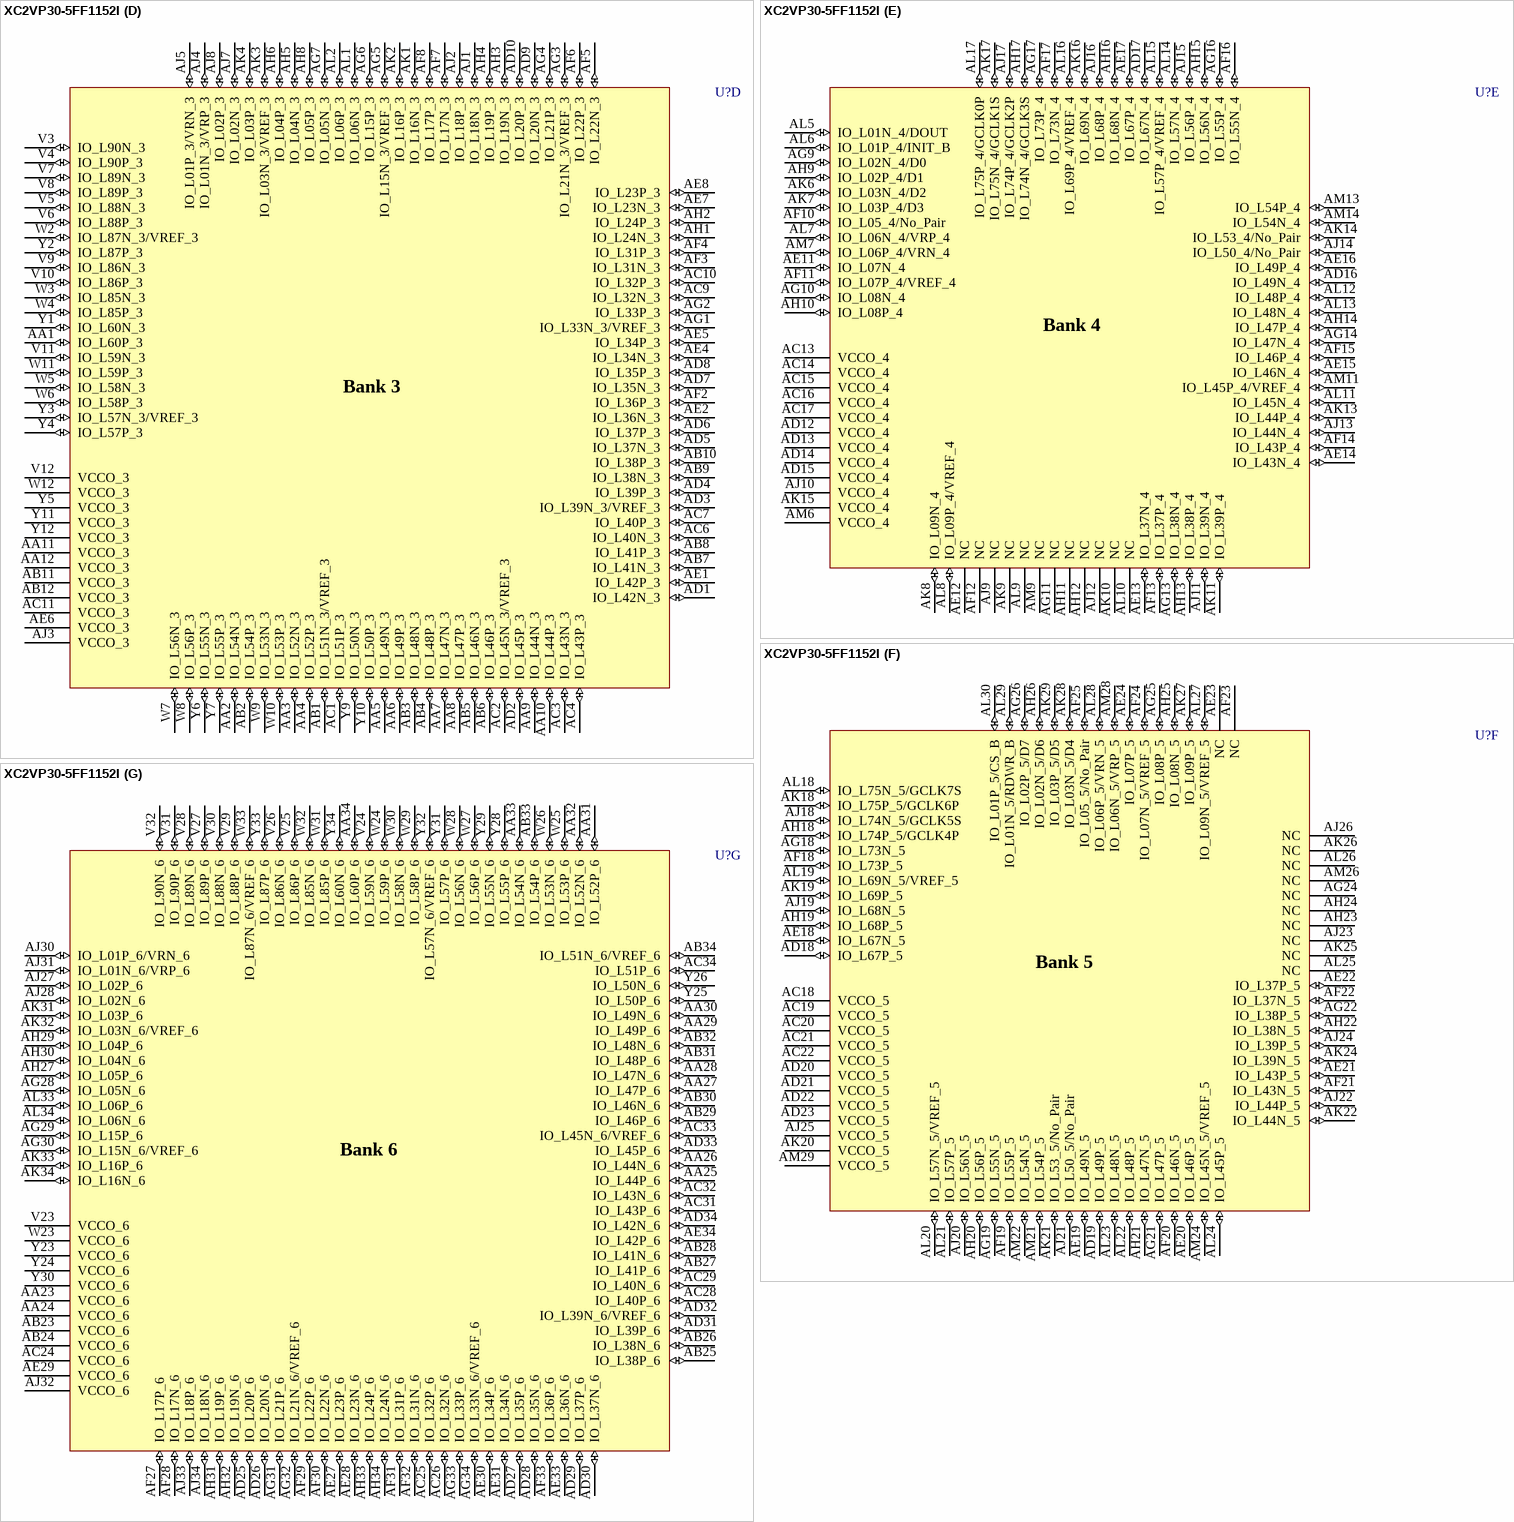
[diagram p175: symbol XC2VP30-5FF1152I]

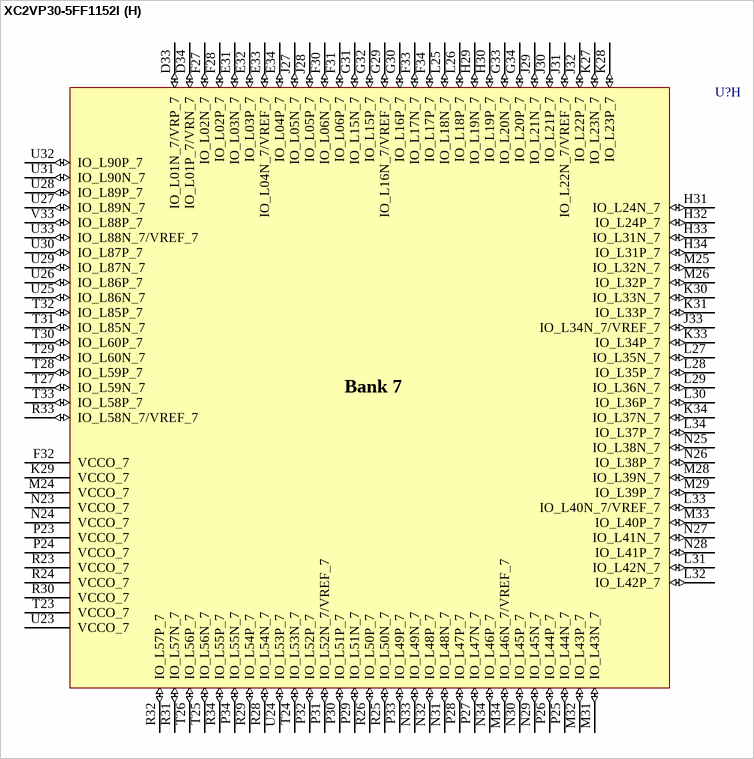
[diagram p176: symbol XC2VP30-5FF1152I]

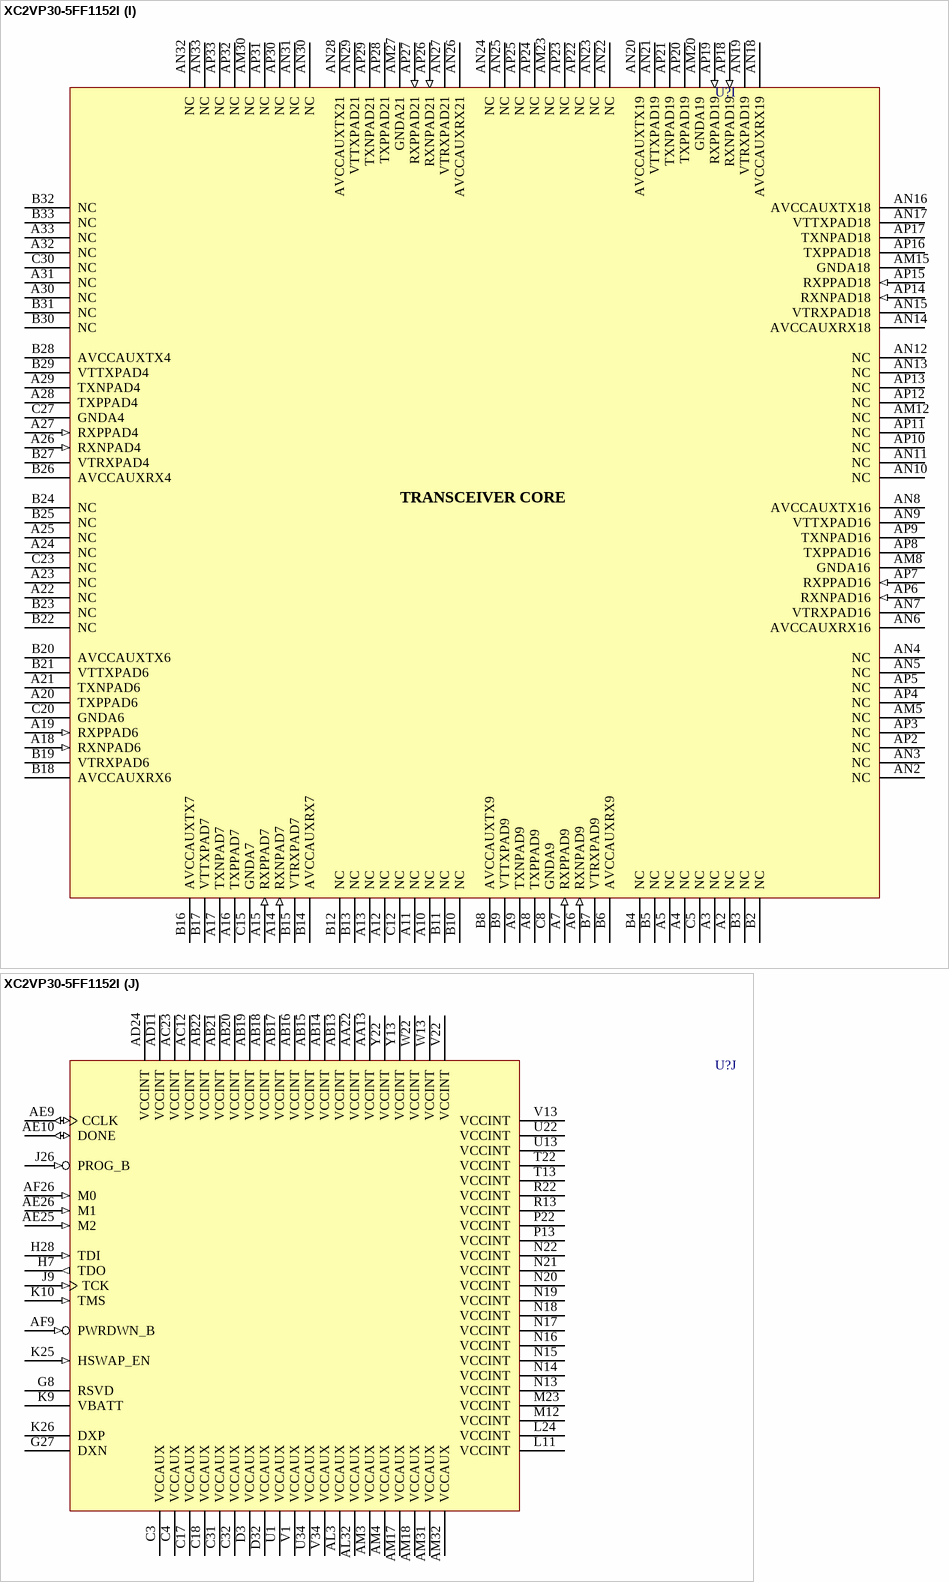
[diagram p177: symbol XC2VP30-5FF1152I]

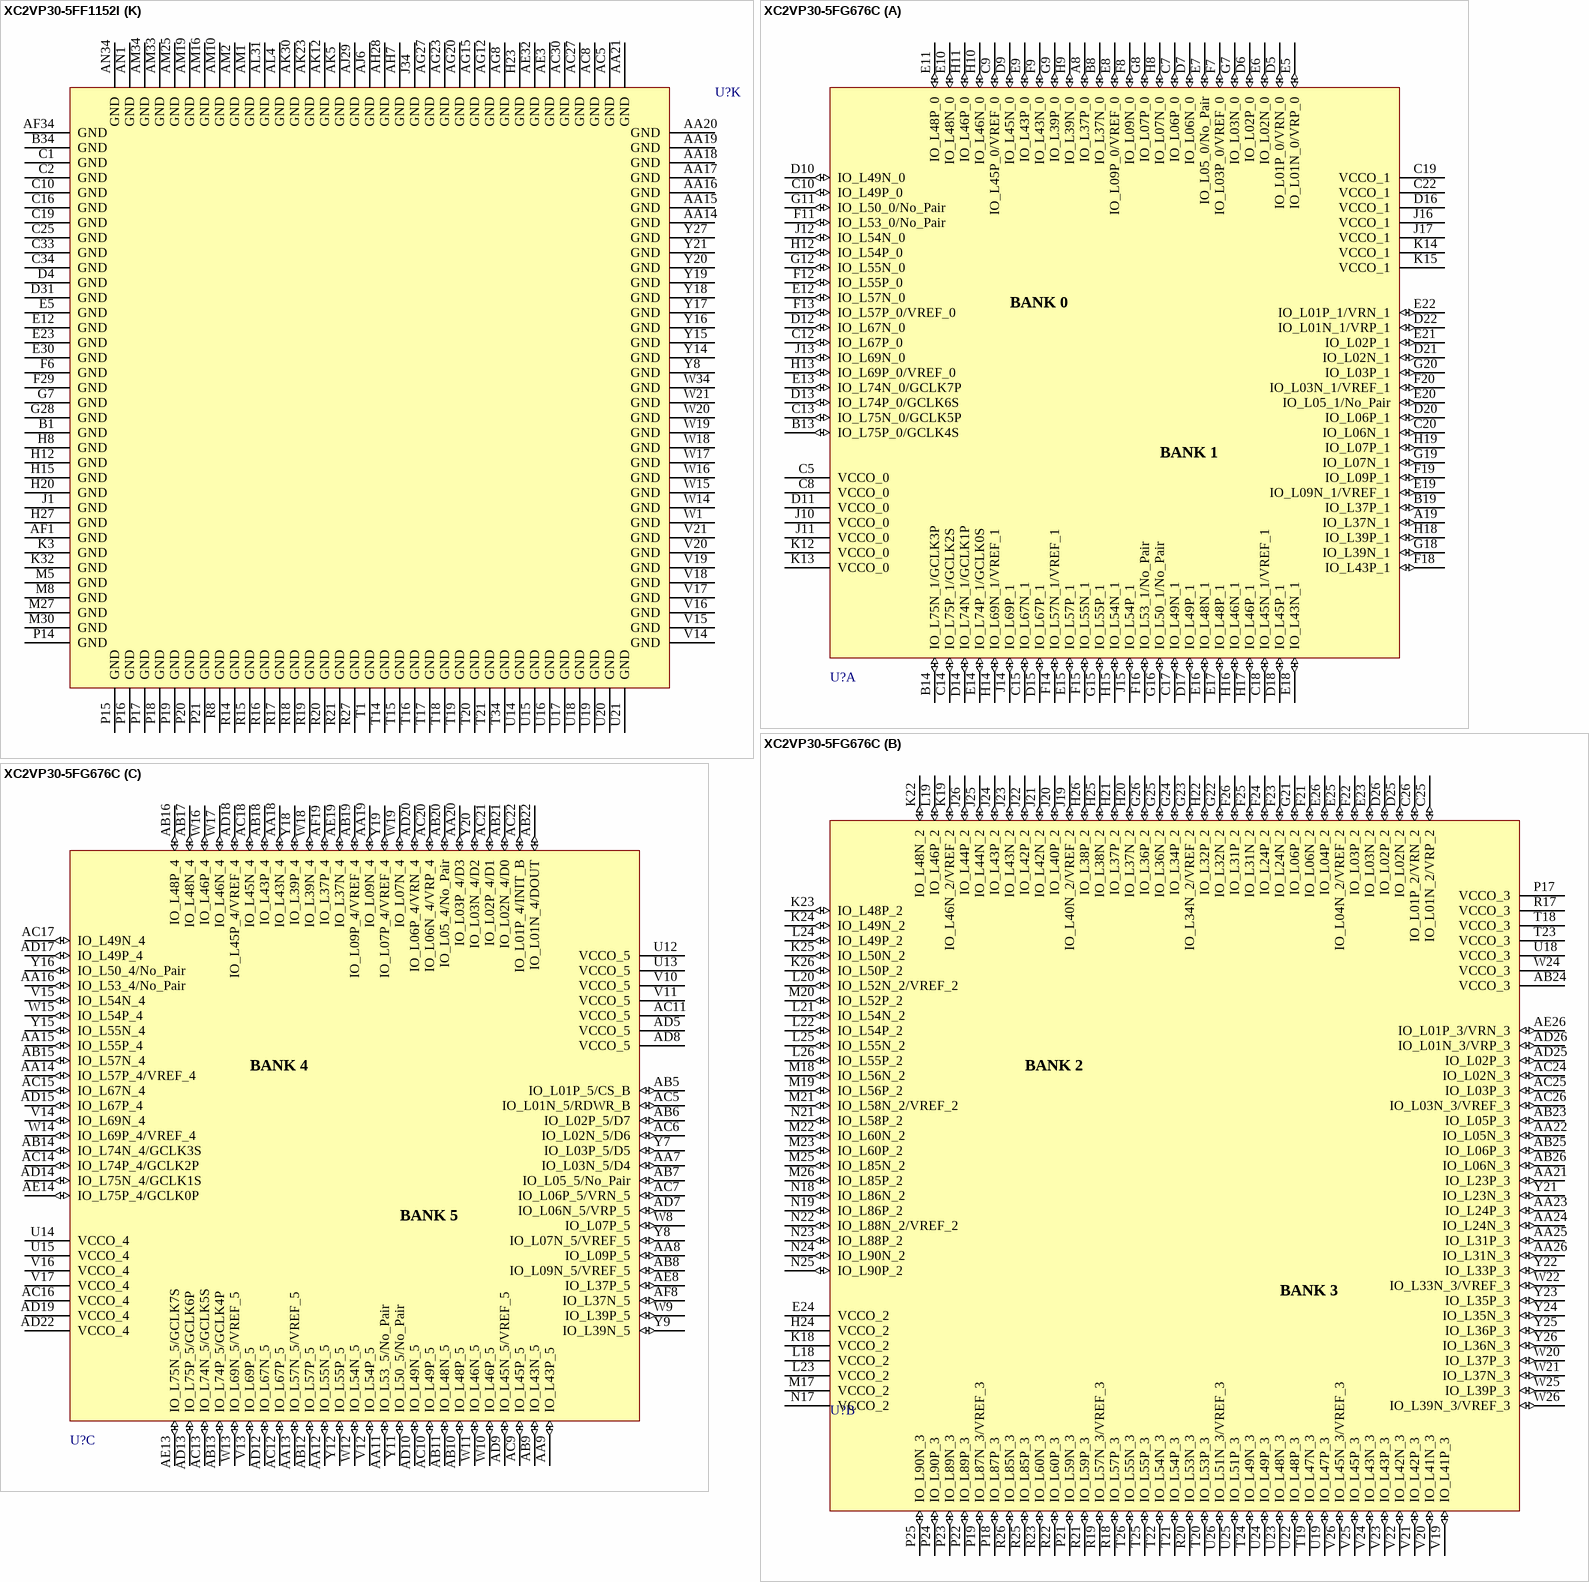
[diagram p178: symbols XC2VP30-5FF1152I to XC2VP30-5FG676C]

## XC2VP30-5FF1152I
designator U?
Virtex-II Pro Platform FPGA, 1152-Ball FFBGA, Speed Grade 5, 644 User I/Os, Industrial Grade; PackageDocument: ver1.0, Apr-2001; User_I/Os: 644; Published: 16-Apr-2003; DatasheetDocument: 22-Apr-2004; PackageReference: FF1152; Publisher: Altium Limited; Code_JEDEC: MS-034-AAR-1
footprint FF1152 (1152-Ball Flip-Chip Fine Pitch Ball Grid Array (FF1152))
3D model XC2VP30-FF1152 (1152-Ball Flip-Chip Fine Pitch Ball Grid Array (FF1152))
signal-integrity model XC2VP30_FF1152 (Virtex-II Pro)
part A pins: C21 IO_L50_0/No_Pair (io), C22 IO_L53_0/No_Pair (io), C24 IO_L47P_0 (io), C26 IO_L38P_0 (io), C28 NC, C29 VCCO_0 (power), D18 IO_L74P_0/GCLK6S (io), D19 IO_L68P_0 (io), D20 IO_L56P_0 (io), D21 IO_L56N_0 (io), D22 IO_L46N_0 (io), D23 IO_L46P_0 (io), D24 IO_L47N_0 (io), D25 IO_L44P_0 (io), D26 IO_L38N_0 (io), D27 NC, D28 NC, D29 IO_L08P_0 (io), D30 IO_L08N_0 (io), E18 IO_L74N_0/GCLK7P (io), E19 IO_L68N_0 (io), E20 VCCO_0 (power), E21 IO_L49P_0 (io), E22 IO_L43P_0 (io), E24 NC, E25 IO_L44N_0 (io), E26 IO_L07P_0 (io), E27 NC, E28 IO_L01P_0/VRN_0 (io), E29 IO_L01N_0/VRP_0 (io), F18 IO_L73P_0 (io), F19 IO_L67P_0 (io), F20 IO_L55P_0 (io), F21 IO_L49N_0 (io), F22 IO_L43N_0 (io), F23 NC, F24 NC, F25 VCCO_0 (power), F26 IO_L07N_0 (io), G18 IO_L73N_0 (io), G19 IO_L67N_0 (io), G20 IO_L55N_0 (io), G21 IO_L45P_0/VREF_0 (io), G22 IO_L37P_0 (io), G23 NC, G24 NC, G25 IO_L03P_0/VREF_0 (io), G26 IO_L02P_0 (io), H18 IO_L75P_0/GCLK4S (io), H19 IO_L57P_0/VREF_0 (io), H21 IO_L45N_0 (io), H22 IO_L37N_0 (io), H24 NC, H25 IO_L03N_0 (io), H26 IO_L02N_0 (io), J18 IO_L75N_0/GCLK5P (io), J19 IO_L57N_0 (io), J20 IO_L48P_0 (io), J21 IO_L39P_0 (io), J22 NC, J23 IO_L09P_0/VREF_0 (io), J24 IO_L06P_0 (io), J25 IO_L05_0/No_Pair (io), K18 IO_L69P_0/VREF_0 (io), K19 IO_L54P_0 (io), K20 IO_L48N_0 (io), K21 IO_L39N_0 (io), K22 NC, K23 IO_L09N_0 (io), K24 IO_L06N_0 (io), L18 IO_L69N_0 (io), L19 IO_L54N_0 (io), L20 VCCO_0 (power), L21 VCCO_0 (power), L22 VCCO_0 (power), L23 VCCO_0 (power), M18 VCCO_0 (power), M19 VCCO_0 (power), M20 VCCO_0 (power), M21 VCCO_0 (power), M22 VCCO_0 (power)
part B pins: C6 VCCO_1 (power), C7 NC, C9 IO_L38N_1 (io), C11 IO_L47N_1 (io), C13 IO_L53_1/No_Pair (io), C14 IO_L50_1/No_Pair (io), D5 IO_L08P_1 (io), D6 IO_L08N_1 (io), D7 NC, D8 NC, D9 IO_L38P_1 (io), D10 IO_L44N_1 (io), D11 IO_L47P_1 (io), D12 IO_L46N_1 (io), D13 IO_L46P_1 (io), D14 IO_L56P_1 (io), D15 IO_L56N_1 (io), D16 IO_L68N_1 (io), D17 IO_L74N_1/GCLK1P (io), E6 IO_L01P_1/VRN_1 (io), E7 IO_L01N_1/VRP_1 (io), E8 NC, E9 IO_L07N_1 (io), E10 IO_L44P_1 (io), E11 NC, E13 IO_L43N_1 (io), E14 IO_L49N_1 (io), E15 VCCO_1 (power), E16 IO_L68P_1 (io), E17 IO_L74P_1/GCLK0S (io), F9 IO_L07P_1 (io), F10 VCCO_1 (power), F11 NC, F12 NC, F13 IO_L43P_1 (io), F14 IO_L49P_1 (io), F15 IO_L55N_1 (io), F16 IO_L67N_1 (io), F17 IO_L73N_1 (io), G9 IO_L02N_1 (io), G10 IO_L03N_1/VREF_1 (io), G11 NC, G12 NC, G13 IO_L37N_1 (io), G14 IO_L45N_1/VREF_1 (io), G15 IO_L55P_1 (io), G16 IO_L67P_1 (io), G17 IO_L73P_1 (io), H9 IO_L02P_1 (io), H10 IO_L03P_1 (io), H11 NC, H13 IO_L37P_1 (io), H14 IO_L45P_1 (io), H16 IO_L57N_1/VREF_1 (io), H17 IO_L75N_1/GCLK3P (io), J10 IO_L05_1/No_Pair (io), J11 IO_L06N_1 (io), J12 IO_L09N_1/VREF_1 (io), J13 NC, J14 IO_L39N_1 (io), J15 IO_L48N_1 (io), J16 IO_L57P_1 (io), J17 IO_L75P_1/GCLK2S (io), K11 IO_L06P_1 (io), K12 IO_L09P_1 (io), K13 NC, K14 IO_L39P_1 (io), K15 IO_L48P_1 (io), K16 IO_L54N_1 (io), K17 IO_L69N_1/VREF_1 (io), L12 VCCO_1 (power), L13 VCCO_1 (power), L14 VCCO_1 (power), L15 VCCO_1 (power), L16 IO_L54P_1 (io), L17 IO_L69P_1 (io), M13 VCCO_1 (power), M14 VCCO_1 (power), M15 VCCO_1 (power), M16 VCCO_1 (power), M17 VCCO_1 (power)
part C pins: D1 IO_L01P_2/VRN_2 (io), D2 IO_L01N_2/VRP_2 (io), E1 IO_L04P_2 (io), E2 IO_L04N_2/VREF_2 (io), E3 IO_L03P_2 (io), E4 IO_L03N_2 (io), F1 IO_L17P_2 (io), F2 IO_L17N_2 (io), F3 VCCO_2 (power), F4 IO_L06P_2 (io), F5 IO_L06N_2 (io), F7 IO_L02P_2 (io), F8 IO_L02N_2 (io), G1 IO_L20P_2 (io), G2 IO_L20N_2 (io), G3 IO_L15P_2 (io), G4 IO_L15N_2 (io), G5 IO_L16P_2 (io), G6 IO_L16N_2/VREF_2 (io), H1 IO_L31P_2 (io), H2 IO_L31N_2 (io), H3 IO_L24P_2 (io), H4 IO_L24N_2 (io), H5 IO_L19P_2 (io), H6 IO_L19N_2 (io), J2 IO_L34N_2/VREF_2 (io), J3 IO_L22P_2 (io), J4 IO_L22N_2/VREF_2 (io), J5 IO_L21P_2 (io), J6 IO_L21N_2 (io), J7 IO_L05P_2 (io), J8 IO_L05N_2 (io), K1 IO_L37N_2 (io), K2 IO_L34P_2 (io), K4 IO_L33P_2 (io), K5 IO_L33N_2 (io), K6 VCCO_2 (power), K7 IO_L23P_2 (io), K8 IO_L23N_2 (io), L1 IO_L37P_2 (io), L2 IO_L40N_2/VREF_2 (io), L3 IO_L42P_2 (io), L4 IO_L42N_2 (io), L5 IO_L36P_2 (io), L6 IO_L36N_2 (io), L7 IO_L35P_2 (io), L8 IO_L35N_2 (io), L9 IO_L18P_2 (io), L10 IO_L18N_2 (io), M1 IO_L46N_2/VREF_2 (io), M2 IO_L40P_2 (io), M3 IO_L43P_2 (io), M4 IO_L43N_2 (io), M6 IO_L39P_2 (io), M7 IO_L39N_2 (io), M9 IO_L32P_2 (io), M10 IO_L32N_2 (io), M11 VCCO_2 (power), N1 IO_L46P_2 (io), N2 IO_L49N_2 (io), N3 IO_L48P_2 (io), N4 IO_L48N_2 (io), N5 IO_L45P_2 (io), N6 IO_L45N_2 (io), N7 IO_L41P_2 (io), N8 IO_L41N_2 (io), N9 IO_L38P_2 (io), N10 IO_L38N_2 (io), N11 VCCO_2 (power), N12 VCCO_2 (power), P1 IO_L55N_2 (io), P2 IO_L49P_2 (io), P3 IO_L52P_2 (io), P4 IO_L52N_2/VREF_2 (io), P5 IO_L51P_2 (io), P6 IO_L51N_2 (io), P7 IO_L47P_2 (io), P8 IO_L47N_2 (io), P9 IO_L44P_2 (io), P10 IO_L44N_2 (io), P11 VCCO_2 (power), P12 VCCO_2 (power), R1 IO_L55P_2 (io), R2 IO_L58N_2/VREF_2 (io), R3 IO_L57P_2 (io), R4 IO_L57N_2 (io), R5 VCCO_2 (power), R6 IO_L54P_2 (io), R7 IO_L54N_2 (io), R9 IO_L50P_2 (io), R10 IO_L50N_2 (io), R11 VCCO_2 (power), R12 VCCO_2 (power), T2 IO_L58P_2 (io), T3 IO_L85P_2 (io), T4 IO_L85N_2 (io), T5 IO_L60P_2 (io), T6 IO_L60N_2 (io), T7 IO_L59P_2 (io), T8 IO_L59N_2 (io), T9 IO_L56P_2 (io), T10 IO_L56N_2 (io), T11 IO_L53N_2 (io), T12 VCCO_2 (power), U2 IO_L88N_2/VREF_2 (io), U3 IO_L90P_2 (io), U4 IO_L90N_2 (io), U5 IO_L87P_2 (io), U6 IO_L87N_2 (io), U7 IO_L89P_2 (io), U8 IO_L89N_2 (io), U9 IO_L86P_2 (io), U10 IO_L86N_2 (io), U11 IO_L53P_2 (io), U12 VCCO_2 (power), V2 IO_L88P_2 (io)
part D pins: AA1 IO_L60P_3 (io), AA2 IO_L54N_3 (io), AA3 IO_L52N_3 (io), AA4 IO_L52P_3 (io), AA5 IO_L49N_3 (io), AA6 IO_L49P_3 (io), AA7 IO_L47N_3 (io), AA8 IO_L47P_3 (io), AA9 IO_L44N_3 (io), AA10 IO_L44P_3 (io), AA11 VCCO_3 (power), AA12 VCCO_3 (power), AB1 IO_L51N_3/VREF_3 (io), AB2 IO_L54P_3 (io), AB3 IO_L48N_3 (io), AB4 IO_L48P_3 (io), AB5 IO_L46N_3 (io), AB6 IO_L46P_3 (io), AB7 IO_L41N_3 (io), AB8 IO_L41P_3 (io), AB9 IO_L38N_3 (io), AB10 IO_L38P_3 (io), AB11 VCCO_3 (power), AB12 VCCO_3 (power), AC1 IO_L51P_3 (io), AC2 IO_L45N_3/VREF_3 (io), AC3 IO_L43N_3 (io), AC4 IO_L43P_3 (io), AC6 IO_L40N_3 (io), AC7 IO_L40P_3 (io), AC9 IO_L32N_3 (io), AC10 IO_L32P_3 (io), AC11 VCCO_3 (power), AD1 IO_L42N_3 (io), AD2 IO_L45P_3 (io), AD3 IO_L39N_3/VREF_3 (io), AD4 IO_L39P_3 (io), AD5 IO_L37N_3 (io), AD6 IO_L37P_3 (io), AD7 IO_L35N_3 (io), AD8 IO_L35P_3 (io), AD9 IO_L20N_3 (io), AD10 IO_L20P_3 (io), AE1 IO_L42P_3 (io), AE2 IO_L36N_3 (io), AE4 IO_L34N_3 (io), AE5 IO_L34P_3 (io), AE6 VCCO_3 (power), AE7 IO_L23N_3 (io), AE8 IO_L23P_3 (io), AF2 IO_L36P_3 (io), AF3 IO_L31N_3 (io), AF4 IO_L31P_3 (io), AF5 IO_L22N_3 (io), AF6 IO_L22P_3 (io), AF7 IO_L17N_3 (io), AF8 IO_L17P_3 (io), AG1 IO_L33N_3/VREF_3 (io), AG2 IO_L33P_3 (io), AG3 IO_L21N_3/VREF_3 (io), AG4 IO_L21P_3 (io), AG5 IO_L15N_3/VREF_3 (io), AG6 IO_L15P_3 (io), AG7 IO_L05N_3 (io), AH1 IO_L24N_3 (io), AH2 IO_L24P_3 (io), AH3 IO_L19N_3 (io), AH4 IO_L19P_3 (io), AH5 IO_L04N_3 (io), AH6 IO_L04P_3 (io), AH8 IO_L05P_3 (io), AJ1 IO_L18N_3 (io), AJ2 IO_L18P_3 (io), AJ3 VCCO_3 (power), AJ4 IO_L01N_3/VRP_3 (io), AJ5 IO_L01P_3/VRN_3 (io), AJ7 IO_L02N_3 (io), AJ8 IO_L02P_3 (io), AK1 IO_L16N_3 (io), AK2 IO_L16P_3 (io), AK3 IO_L03N_3/VREF_3 (io), AK4 IO_L03P_3 (io), AL1 IO_L06N_3 (io), AL2 IO_L06P_3 (io), V3 IO_L90N_3 (io), V4 IO_L90P_3 (io), V5 IO_L88N_3 (io), V6 IO_L88P_3 (io), V7 IO_L89N_3 (io), V8 IO_L89P_3 (io), V9 IO_L86N_3 (io), V10 IO_L86P_3 (io), V11 IO_L59N_3 (io), V12 VCCO_3 (power), W2 IO_L87N_3/VREF_3 (io), W3 IO_L85N_3 (io), W4 IO_L85P_3 (io), W5 IO_L58N_3 (io), W6 IO_L58P_3 (io), W7 IO_L56N_3 (io), W8 IO_L56P_3 (io), W9 IO_L53N_3 (io), W10 IO_L53P_3 (io), W11 IO_L59P_3 (io), W12 VCCO_3 (power), Y1 IO_L60N_3 (io), Y2 IO_L87P_3 (io), Y3 IO_L57N_3/VREF_3 (io), Y4 IO_L57P_3 (io), Y5 VCCO_3 (power), Y6 IO_L55N_3 (io), Y7 IO_L55P_3 (io), Y9 IO_L50N_3 (io), Y10 IO_L50P_3 (io), Y11 VCCO_3 (power), Y12 VCCO_3 (power)
part E pins: AC13 VCCO_4 (power), AC14 VCCO_4 (power), AC15 VCCO_4 (power), AC16 VCCO_4 (power), AC17 VCCO_4 (power), AD12 VCCO_4 (power), AD13 VCCO_4 (power), AD14 VCCO_4 (power), AD15 VCCO_4 (power), AD16 IO_L49N_4 (io), AD17 IO_L67N_4 (io), AE11 IO_L07N_4 (io), AE12 NC, AE13 IO_L37N_4 (io), AE14 IO_L43N_4 (io), AE15 IO_L46N_4 (io), AE16 IO_L49P_4 (io), AE17 IO_L67P_4 (io), AF10 IO_L05_4/No_Pair (io), AF11 IO_L07P_4/VREF_4 (io), AF12 NC, AF13 IO_L37P_4 (io), AF14 IO_L43P_4 (io), AF15 IO_L46P_4 (io), AF16 IO_L55N_4 (io), AF17 IO_L73N_4 (io), AG9 IO_L02N_4/D0 (io), AG10 IO_L08N_4 (io), AG11 NC, AG13 IO_L38N_4 (io), AG14 IO_L47N_4 (io), AG16 IO_L55P_4 (io), AG17 IO_L73P_4 (io), AH9 IO_L02P_4/D1 (io), AH10 IO_L08P_4 (io), AH11 NC, AH12 NC, AH13 IO_L38P_4 (io), AH14 IO_L47P_4 (io), AH15 IO_L56N_4 (io), AH16 IO_L68N_4 (io), AH17 IO_L74N_4/GCLK3S (io), AJ9 NC, AJ10 VCCO_4 (power), AJ11 IO_L39N_4 (io), AJ12 NC, AJ13 IO_L44N_4 (io), AJ14 IO_L50_4/No_Pair (io), AJ15 IO_L56P_4 (io), AJ16 IO_L68P_4 (io), AJ17 IO_L74P_4/GCLK2P (io), AK6 IO_L03N_4/D2 (io), AK7 IO_L03P_4/D3 (io), AK8 IO_L09N_4 (io), AK9 NC, AK10 NC, AK11 IO_L39P_4 (io), AK13 IO_L44P_4 (io), AK14 IO_L53_4/No_Pair (io), AK15 VCCO_4 (power), AK16 IO_L69N_4 (io), AK17 IO_L75N_4/GCLK1S (io), AL5 IO_L01N_4/DOUT (io), AL6 IO_L01P_4/INIT_B (io), AL7 IO_L06N_4/VRP_4 (io), AL8 IO_L09P_4/VREF_4 (io), AL9 NC, AL10 NC, AL11 IO_L45N_4 (io), AL12 IO_L48P_4 (io), AL13 IO_L48N_4 (io), AL14 IO_L57N_4 (io), AL15 IO_L57P_4/VREF_4 (io), AL16 IO_L69P_4/VREF_4 (io), AL17 IO_L75P_4/GCLK0P (io), AM6 VCCO_4 (power), AM7 IO_L06P_4/VRN_4 (io), AM9 NC, AM11 IO_L45P_4/VREF_4 (io), AM13 IO_L54P_4 (io), AM14 IO_L54N_4 (io)
part F pins: AC18 VCCO_5 (power), AC19 VCCO_5 (power), AC20 VCCO_5 (power), AC21 VCCO_5 (power), AC22 VCCO_5 (power), AD18 IO_L67P_5 (io), AD19 IO_L49P_5 (io), AD20 VCCO_5 (power), AD21 VCCO_5 (power), AD22 VCCO_5 (power), AD23 VCCO_5 (power), AE18 IO_L67N_5 (io), AE19 IO_L49N_5 (io), AE20 IO_L46P_5 (io), AE21 IO_L43P_5 (io), AE22 IO_L37P_5 (io), AE23 NC, AE24 IO_L07P_5 (io), AF18 IO_L73P_5 (io), AF19 IO_L55P_5 (io), AF20 IO_L46N_5 (io), AF21 IO_L43N_5 (io), AF22 IO_L37N_5 (io), AF23 NC, AF24 IO_L07N_5/VREF_5 (io), AF25 IO_L05_5/No_Pair (io), AG18 IO_L73N_5 (io), AG19 IO_L55N_5 (io), AG21 IO_L47P_5 (io), AG22 IO_L38P_5 (io), AG24 NC, AG25 IO_L08P_5 (io), AG26 IO_L02P_5/D7 (io), AH18 IO_L74P_5/GCLK4P (io), AH19 IO_L68P_5 (io), AH20 IO_L56P_5 (io), AH21 IO_L47N_5 (io), AH22 IO_L38N_5 (io), AH23 NC, AH24 NC, AH25 IO_L08N_5 (io), AH26 IO_L02N_5/D6 (io), AJ18 IO_L74N_5/GCLK5S (io), AJ19 IO_L68N_5 (io), AJ20 IO_L56N_5 (io), AJ21 IO_L50_5/No_Pair (io), AJ22 IO_L44P_5 (io), AJ23 NC, AJ24 IO_L39P_5 (io), AJ25 VCCO_5 (power), AJ26 NC, AK18 IO_L75P_5/GCLK6P (io), AK19 IO_L69P_5 (io), AK20 VCCO_5 (power), AK21 IO_L53_5/No_Pair (io), AK22 IO_L44N_5 (io), AK24 IO_L39N_5 (io), AK25 NC, AK26 NC, AK27 IO_L09P_5 (io), AK28 IO_L03N_5/D4 (io), AK29 IO_L03P_5/D5 (io), AL18 IO_L75N_5/GCLK7S (io), AL19 IO_L69N_5/VREF_5 (io), AL20 IO_L57N_5/VREF_5 (io), AL21 IO_L57P_5 (io), AL22 IO_L48P_5 (io), AL23 IO_L48N_5 (io), AL24 IO_L45P_5 (io), AL25 NC, AL26 NC, AL27 IO_L09N_5/VREF_5 (io), AL28 IO_L06P_5/VRN_5 (io), AL29 IO_L01N_5/RDWR_B (io), AL30 IO_L01P_5/CS_B (io), AM21 IO_L54P_5 (io), AM22 IO_L54N_5 (io), AM24 IO_L45N_5/VREF_5 (io), AM26 NC, AM28 IO_L06N_5/VRP_5 (io), AM29 VCCO_5 (power)
part G pins: AA23 VCCO_6 (power), AA24 VCCO_6 (power), AA25 IO_L44P_6 (io), AA26 IO_L44N_6 (io), AA27 IO_L47P_6 (io), AA28 IO_L47N_6 (io), AA29 IO_L49P_6 (io), AA30 IO_L49N_6 (io), AA31 IO_L52P_6 (io), AA32 IO_L52N_6 (io), AA33 IO_L54N_6 (io), AA34 IO_L60P_6 (io), AB23 VCCO_6 (power), AB24 VCCO_6 (power), AB25 IO_L38P_6 (io), AB26 IO_L38N_6 (io), AB27 IO_L41P_6 (io), AB28 IO_L41N_6 (io), AB29 IO_L46P_6 (io), AB30 IO_L46N_6 (io), AB31 IO_L48P_6 (io), AB32 IO_L48N_6 (io), AB33 IO_L54P_6 (io), AB34 IO_L51N_6/VREF_6 (io), AC24 VCCO_6 (power), AC25 IO_L32P_6 (io), AC26 IO_L32N_6 (io), AC28 IO_L40P_6 (io), AC29 IO_L40N_6 (io), AC31 IO_L43P_6 (io), AC32 IO_L43N_6 (io), AC33 IO_L45N_6/VREF_6 (io), AC34 IO_L51P_6 (io), AD25 IO_L20P_6 (io), AD26 IO_L20N_6 (io), AD27 IO_L35P_6 (io), AD28 IO_L35N_6 (io), AD29 IO_L37P_6 (io), AD30 IO_L37N_6 (io), AD31 IO_L39P_6 (io), AD32 IO_L39N_6/VREF_6 (io), AD33 IO_L45P_6 (io), AD34 IO_L42N_6 (io), AE27 IO_L23P_6 (io), AE28 IO_L23N_6 (io), AE29 VCCO_6 (power), AE30 IO_L34P_6 (io), AE31 IO_L34N_6 (io), AE33 IO_L36N_6 (io), AE34 IO_L42P_6 (io), AF27 IO_L17P_6 (io), AF28 IO_L17N_6 (io), AF29 IO_L22P_6 (io), AF30 IO_L22N_6 (io), AF31 IO_L31P_6 (io), AF32 IO_L31N_6 (io), AF33 IO_L36P_6 (io), AG28 IO_L05N_6 (io), AG29 IO_L15P_6 (io), AG30 IO_L15N_6/VREF_6 (io), AG31 IO_L21P_6 (io), AG32 IO_L21N_6/VREF_6 (io), AG33 IO_L33P_6 (io), AG34 IO_L33N_6/VREF_6 (io), AH27 IO_L05P_6 (io), AH29 IO_L04P_6 (io), AH30 IO_L04N_6 (io), AH31 IO_L19P_6 (io), AH32 IO_L19N_6 (io), AH33 IO_L24P_6 (io), AH34 IO_L24N_6 (io), AJ27 IO_L02P_6 (io), AJ28 IO_L02N_6 (io), AJ30 IO_L01P_6/VRN_6 (io), AJ31 IO_L01N_6/VRP_6 (io), AJ32 VCCO_6 (power), AJ33 IO_L18P_6 (io), AJ34 IO_L18N_6 (io), AK31 IO_L03P_6 (io), AK32 IO_L03N_6/VREF_6 (io), AK33 IO_L16P_6 (io), AK34 IO_L16N_6 (io), AL33 IO_L06P_6 (io), AL34 IO_L06N_6 (io), V23 VCCO_6 (power), V24 IO_L59N_6 (io), V25 IO_L86P_6 (io), V26 IO_L86N_6 (io), V27 IO_L89P_6 (io), V28 IO_L89N_6 (io), V29 IO_L88P_6 (io), V30 IO_L88N_6 (io), V31 IO_L90P_6 (io), V32 IO_L90N_6 (io), W23 VCCO_6 (power), W24 IO_L59P_6 (io), W25 IO_L53P_6 (io), W26 IO_L53N_6 (io), W27 IO_L56P_6 (io), W28 IO_L56N_6 (io), W29 IO_L58P_6 (io), W30 IO_L58N_6 (io), W31 IO_L85P_6 (io), W32 IO_L85N_6 (io), W33 IO_L87N_6/VREF_6 (io), Y23 VCCO_6 (power), Y24 VCCO_6 (power), Y25 IO_L50P_6 (io), Y26 IO_L50N_6 (io), Y28 IO_L55P_6 (io), Y29 IO_L55N_6 (io), Y30 VCCO_6 (power), Y31 IO_L57P_6 (io), Y32 IO_L57N_6/VREF_6 (io), Y33 IO_L87P_6 (io), Y34 IO_L60N_6 (io)
part H pins: D33 IO_L01N_7/VRP_7 (io), D34 IO_L01P_7/VRN_7 (io), E31 IO_L03N_7 (io), E32 IO_L03P_7 (io), E33 IO_L04N_7/VREF_7 (io), E34 IO_L04P_7 (io), F27 IO_L02N_7 (io), F28 IO_L02P_7 (io), F30 IO_L06N_7 (io), F31 IO_L06P_7 (io), F32 VCCO_7 (power), F33 IO_L17N_7 (io), F34 IO_L17P_7 (io), G29 IO_L16N_7/VREF_7 (io), G30 IO_L16P_7 (io), G31 IO_L15N_7 (io), G32 IO_L15P_7 (io), G33 IO_L20N_7 (io), G34 IO_L20P_7 (io), H29 IO_L19N_7 (io), H30 IO_L19P_7 (io), H31 IO_L24N_7 (io), H32 IO_L24P_7 (io), H33 IO_L31N_7 (io), H34 IO_L31P_7 (io), J27 IO_L05N_7 (io), J28 IO_L05P_7 (io), J29 IO_L21N_7 (io), J30 IO_L21P_7 (io), J31 IO_L22N_7/VREF_7 (io), J32 IO_L22P_7 (io), J33 IO_L34N_7/VREF_7 (io), K27 IO_L23N_7 (io), K28 IO_L23P_7 (io), K29 VCCO_7 (power), K30 IO_L33N_7 (io), K31 IO_L33P_7 (io), K33 IO_L34P_7 (io), K34 IO_L37N_7 (io), L25 IO_L18N_7 (io), L26 IO_L18P_7 (io), L27 IO_L35N_7 (io), L28 IO_L35P_7 (io), L29 IO_L36N_7 (io), L30 IO_L36P_7 (io), L31 IO_L42N_7 (io), L32 IO_L42P_7 (io), L33 IO_L40N_7/VREF_7 (io), L34 IO_L37P_7 (io), M24 VCCO_7 (power), M25 IO_L32N_7 (io), M26 IO_L32P_7 (io), M28 IO_L39N_7 (io), M29 IO_L39P_7 (io), M31 IO_L43N_7 (io), M32 IO_L43P_7 (io), M33 IO_L40P_7 (io), M34 IO_L46N_7/VREF_7 (io), N23 VCCO_7 (power), N24 VCCO_7 (power), N25 IO_L38N_7 (io), N26 IO_L38P_7 (io), N27 IO_L41N_7 (io), N28 IO_L41P_7 (io), N29 IO_L45N_7 (io), N30 IO_L45P_7 (io), N31 IO_L48N_7 (io), N32 IO_L48P_7 (io), N33 IO_L49N_7 (io), N34 IO_L46P_7 (io), P23 VCCO_7 (power), P24 VCCO_7 (power), P25 IO_L44N_7 (io), P26 IO_L44P_7 (io), P27 IO_L47N_7 (io), P28 IO_L47P_7 (io), P29 IO_L51N_7 (io), P30 IO_L51P_7 (io), P31 IO_L52N_7/VREF_7 (io), P32 IO_L52P_7 (io), P33 IO_L49P_7 (io), P34 IO_L55N_7 (io), R23 VCCO_7 (power), R24 VCCO_7 (power), R25 IO_L50N_7 (io), R26 IO_L50P_7 (io), R28 IO_L54N_7 (io), R29 IO_L54P_7 (io), R30 VCCO_7 (power), R31 IO_L57N_7 (io), R32 IO_L57P_7 (io), R33 IO_L58N_7/VREF_7 (io), R34 IO_L55P_7 (io), T23 VCCO_7 (power), T24 IO_L53N_7 (io), T25 IO_L56N_7 (io), T26 IO_L56P_7 (io), T27 IO_L59N_7 (io), T28 IO_L59P_7 (io), T29 IO_L60N_7 (io), T30 IO_L60P_7 (io), T31 IO_L85N_7 (io), T32 IO_L85P_7 (io), T33 IO_L58P_7 (io), U23 VCCO_7 (power), U24 IO_L53P_7 (io), U25 IO_L86N_7 (io), U26 IO_L86P_7 (io), U27 IO_L89N_7 (io), U28 IO_L89P_7 (io), U29 IO_L87N_7 (io), U30 IO_L87P_7 (io), U31 IO_L90N_7 (io), U32 IO_L90P_7 (io), U33 IO_L88N_7/VREF_7 (io), V33 IO_L88P_7 (io)
part I pins: A2 NC, A3 NC, A4 NC, A5 NC, A6 RXNPAD9 (in), A7 RXPPAD9 (in), A8 TXPPAD9 (hiz), A9 TXNPAD9 (hiz), A10 NC, A11 NC, A12 NC, A13 NC, A14 RXNPAD7 (in), A15 RXPPAD7 (in), A16 TXPPAD7 (hiz), A17 TXNPAD7 (hiz), A18 RXNPAD6 (in), A19 RXPPAD6 (in), A20 TXPPAD6 (hiz), A21 TXNPAD6 (hiz), A22 NC, A23 NC, A24 NC, A25 NC, A26 RXNPAD4 (in), A27 RXPPAD4 (in), A28 TXPPAD4 (hiz), A29 TXNPAD4 (hiz), A30 NC, A31 NC, A32 NC, A33 NC, AM5 NC, AM8 GNDA16 (power), AM12 NC, AM15 GNDA18 (power), AM20 GNDA19 (power), AM23 NC, AM27 GNDA21 (power), AM30 NC, AN2 NC, AN3 NC, AN4 NC, AN5 NC, AN6 AVCCAUXRX16 (power), AN7 VTRXPAD16 (power), AN8 AVCCAUXTX16 (power), AN9 VTTXPAD16 (power), AN10 NC, AN11 NC, AN12 NC, AN13 NC, AN14 AVCCAUXRX18 (power), AN15 VTRXPAD18 (power), AN16 AVCCAUXTX18 (power), AN17 VTTXPAD18 (power), AN18 AVCCAUXRX19 (power), AN19 VTRXPAD19 (power), AN20 AVCCAUXTX19 (power), AN21 VTTXPAD19 (power), AN22 NC, AN23 NC, AN24 NC, AN25 NC, AN26 AVCCAUXRX21 (power), AN27 VTRXPAD21 (power), AN28 AVCCAUXTX21 (power), AN29 VTTXPAD21 (power), AN30 NC, AN31 NC, AN32 NC, AN33 NC, AP2 NC, AP3 NC, AP4 NC, AP5 NC, AP6 RXNPAD16 (in), AP7 RXPPAD16 (in), AP8 TXPPAD16 (hiz), AP9 TXNPAD16 (hiz), AP10 NC, AP11 NC, AP12 NC, AP13 NC, AP14 RXNPAD18 (in), AP15 RXPPAD18 (in), AP16 TXPPAD18 (hiz), AP17 TXNPAD18 (hiz), AP18 RXNPAD19 (in), AP19 RXPPAD19 (in), AP20 TXPPAD19 (hiz), AP21 TXNPAD19 (hiz), AP22 NC, AP23 NC, AP24 NC, AP25 NC, AP26 RXNPAD21 (in), AP27 RXPPAD21 (in), AP28 TXPPAD21 (hiz), AP29 TXNPAD21 (hiz), AP30 NC, AP31 NC, AP32 NC, AP33 NC, B2 NC, B3 NC, B4 NC, B5 NC, B6 AVCCAUXRX9 (power), B7 VTRXPAD9 (power), B8 AVCCAUXTX9 (power), B9 VTTXPAD9 (power), B10 NC, B11 NC, B12 NC, B13 NC, B14 AVCCAUXRX7 (power), B15 VTRXPAD7 (power), B16 AVCCAUXTX7 (power), B17 VTTXPAD7 (power), B18 AVCCAUXRX6 (power), B19 VTRXPAD6 (power), B20 AVCCAUXTX6 (power), B21 VTTXPAD6 (power), B22 NC, B23 NC, B24 NC, B25 NC, B26 AVCCAUXRX4 (power), B27 VTRXPAD4 (power), B28 AVCCAUXTX4 (power), B29 VTTXPAD4 (power), B30 NC, B31 NC, B32 NC, B33 NC, C5 NC, C8 GNDA9 (power), C12 NC, C15 GNDA7 (power), C20 GNDA6 (power), C23 NC, C27 GNDA4 (power), C30 NC
part J pins: AA13 VCCINT (power), AA22 VCCINT (power), AB13 VCCINT (power), AB14 VCCINT (power), AB15 VCCINT (power), AB16 VCCINT (power), AB17 VCCINT (power), AB18 VCCINT (power), AB19 VCCINT (power), AB20 VCCINT (power), AB21 VCCINT (power), AB22 VCCINT (power), AC12 VCCINT (power), AC23 VCCINT (power), AD11 VCCINT (power), AD24 VCCINT (power), AE9 CCLK (io), AE10 DONE (io), AE25 M2 (in), AE26 M1 (in), AF9 PWRDWN_B (in), AF26 M0 (in), AL3 VCCAUX (power), AL32 VCCAUX (power), AM3 VCCAUX (power), AM4 VCCAUX (power), AM17 VCCAUX (power), AM18 VCCAUX (power), AM31 VCCAUX (power), AM32 VCCAUX (power), C3 VCCAUX (power), C4 VCCAUX (power), C17 VCCAUX (power), C18 VCCAUX (power), C31 VCCAUX (power), C32 VCCAUX (power), D3 VCCAUX (power), D32 VCCAUX (power), G8 RSVD, G27 DXN, H7 TDO (out), H28 TDI (in), J9 TCK (in), J26 PROG_B (in), K9 VBATT (power), K10 TMS (in), K25 HSWAP_EN (in), K26 DXP, L11 VCCINT (power), L24 VCCINT (power), M12 VCCINT (power), M23 VCCINT (power), N13 VCCINT (power), N14 VCCINT (power), N15 VCCINT (power), N16 VCCINT (power), N17 VCCINT (power), N18 VCCINT (power), N19 VCCINT (power), N20 VCCINT (power), N21 VCCINT (power), N22 VCCINT (power), P13 VCCINT (power), P22 VCCINT (power), R13 VCCINT (power), R22 VCCINT (power), T13 VCCINT (power), T22 VCCINT (power), U1 VCCAUX (power), U13 VCCINT (power), U22 VCCINT (power), U34 VCCAUX (power), V1 VCCAUX (power), V13 VCCINT (power), V22 VCCINT (power), V34 VCCAUX (power), W13 VCCINT (power), W22 VCCINT (power), Y13 VCCINT (power), Y22 VCCINT (power)
part K pins: AA14 GND (power), AA15 GND (power), AA16 GND (power), AA17 GND (power), AA18 GND (power), AA19 GND (power), AA20 GND (power), AA21 GND (power), AC5 GND (power), AC8 GND (power), AC27 GND (power), AC30 GND (power), AE3 GND (power), AE32 GND (power), AF1 GND (power), AF34 GND (power), AG8 GND (power), AG12 GND (power), AG15 GND (power), AG20 GND (power), AG23 GND (power), AG27 GND (power), AH7 GND (power), AH28 GND (power), AJ6 GND (power), AJ29 GND (power), AK5 GND (power), AK12 GND (power), AK23 GND (power), AK30 GND (power), AL4 GND (power), AL31 GND (power), AM1 GND (power), AM2 GND (power), AM10 GND (power), AM16 GND (power), AM19 GND (power), AM25 GND (power), AM33 GND (power), AM34 GND (power), AN1 GND (power), AN34 GND (power), B1 GND (power), B34 GND (power), C1 GND (power), C2 GND (power), C10 GND (power), C16 GND (power), C19 GND (power), C25 GND (power), C33 GND (power), C34 GND (power), D4 GND (power), D31 GND (power), E5 GND (power), E12 GND (power), E23 GND (power), E30 GND (power), F6 GND (power), F29 GND (power), G7 GND (power), G28 GND (power), H8 GND (power), H12 GND (power), H15 GND (power), H20 GND (power), H23 GND (power), H27 GND (power), J1 GND (power), J34 GND (power), K3 GND (power), K32 GND (power), M5 GND (power), M8 GND (power), M27 GND (power), M30 GND (power), P14 GND (power), P15 GND (power), P16 GND (power), P17 GND (power), P18 GND (power), P19 GND (power), P20 GND (power), P21 GND (power), R8 GND (power), R14 GND (power), R15 GND (power), R16 GND (power), R17 GND (power), R18 GND (power), R19 GND (power), R20 GND (power), R21 GND (power), R27 GND (power), T1 GND (power), T14 GND (power), T15 GND (power), T16 GND (power), T17 GND (power), T18 GND (power), T19 GND (power), T20 GND (power), T21 GND (power), T34 GND (power), U14 GND (power), U15 GND (power), U16 GND (power), U17 GND (power), U18 GND (power), U19 GND (power), U20 GND (power), U21 GND (power), V14 GND (power), V15 GND (power), V16 GND (power), V17 GND (power), V18 GND (power), V19 GND (power), V20 GND (power), V21 GND (power), W1 GND (power), W14 GND (power), W15 GND (power), W16 GND (power), W17 GND (power), W18 GND (power), W19 GND (power), W20 GND (power), W21 GND (power), W34 GND (power), Y8 GND (power), Y14 GND (power), Y15 GND (power), Y16 GND (power), Y17 GND (power), Y18 GND (power), Y19 GND (power), Y20 GND (power), Y21 GND (power), Y27 GND (power)
part A text: Bank 0
part B text: Bank 1
part C text: Bank 2
part D text: Bank 3
part E text: Bank 4
part F text: Bank 5
part G text: Bank 6
part H text: Bank 7
part I text: TRANSCEIVER CORE

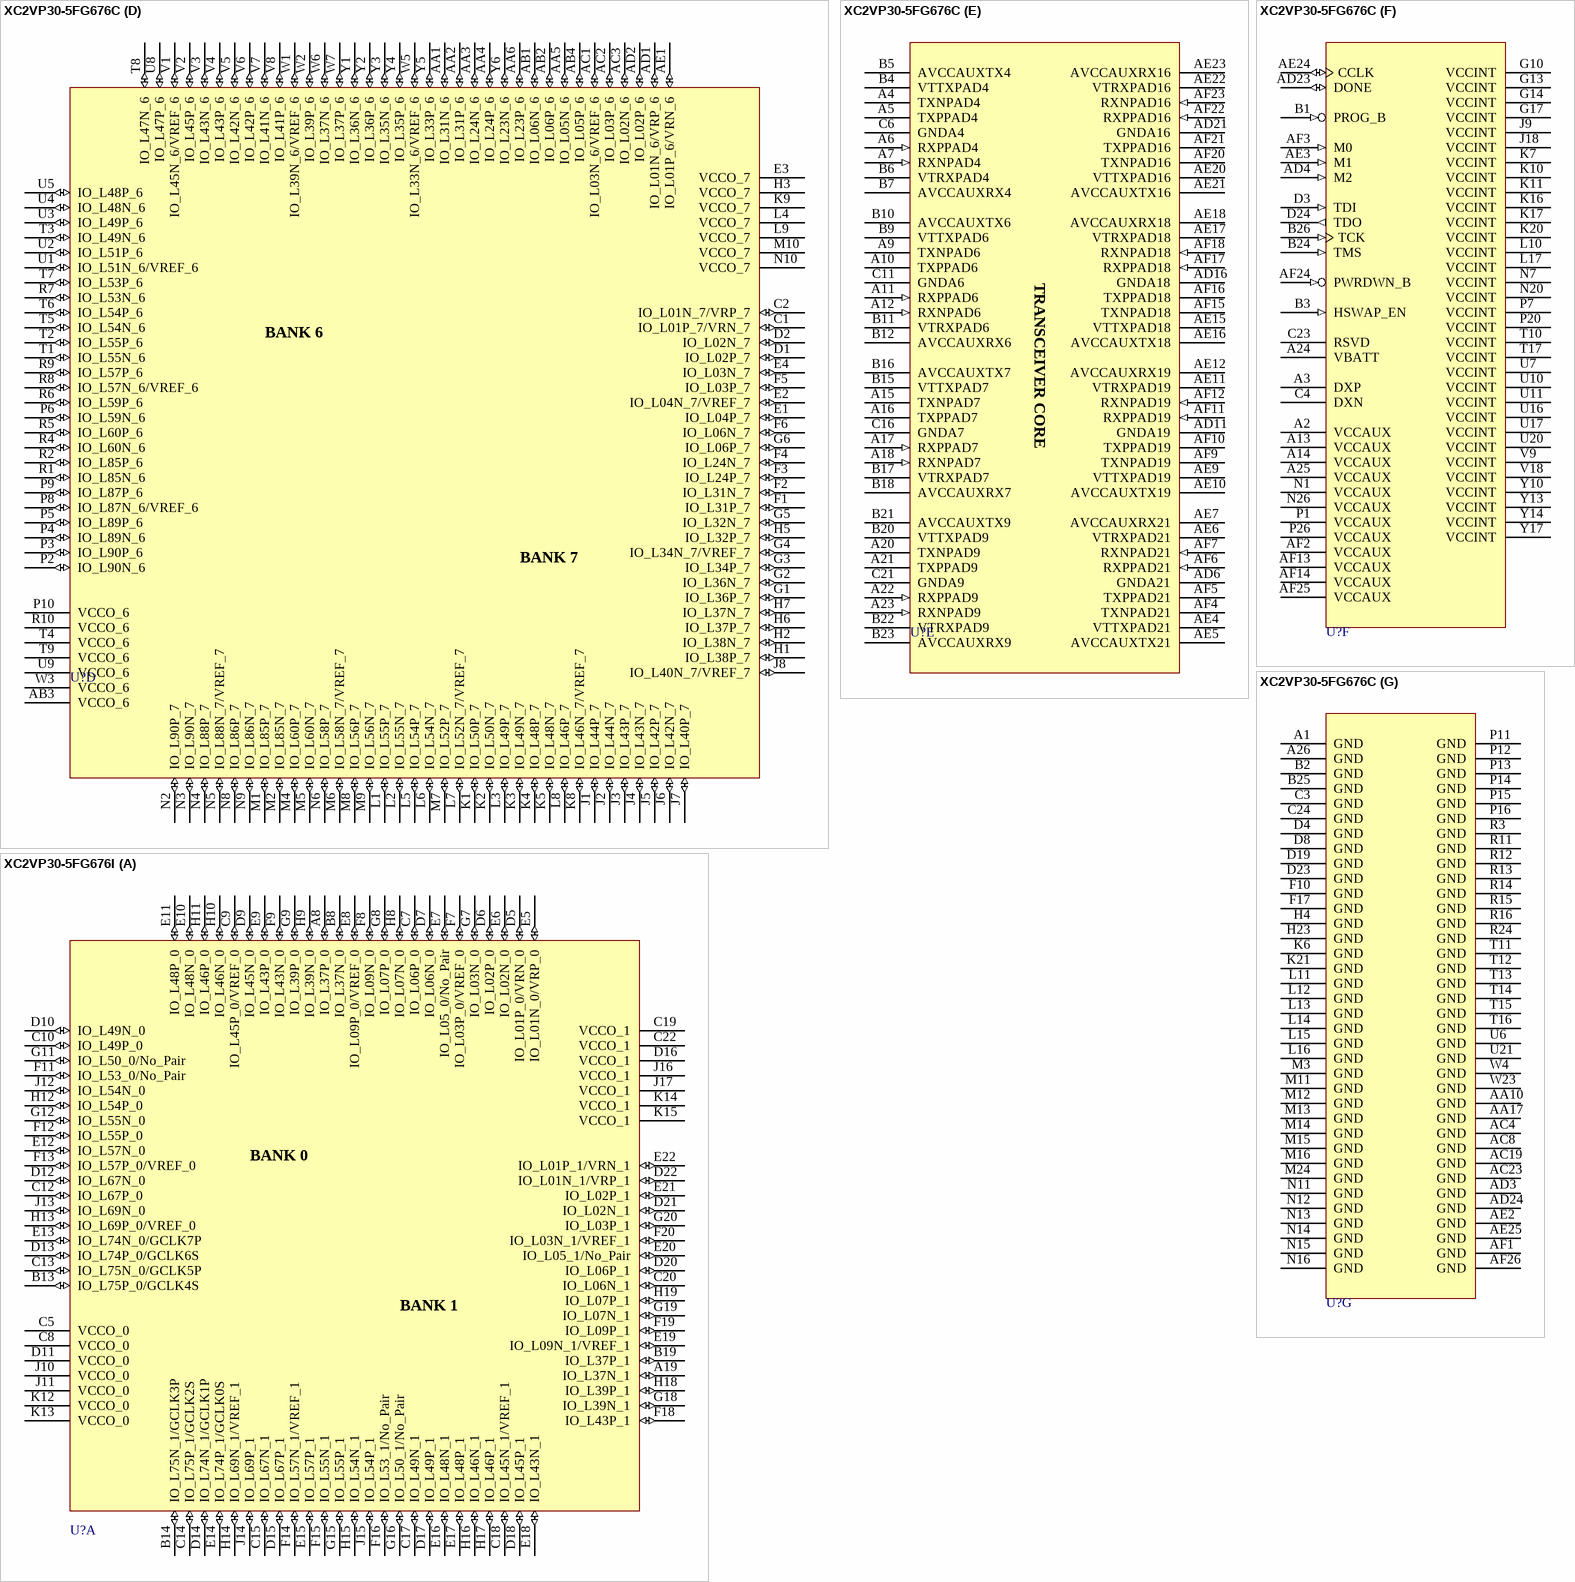
[diagram p179: symbols XC2VP30-5FG676C to XC2VP30-5FG676I]